# Altium schematic symbol library Symbol.SchLib: 349 symbols (part 2 of 3)
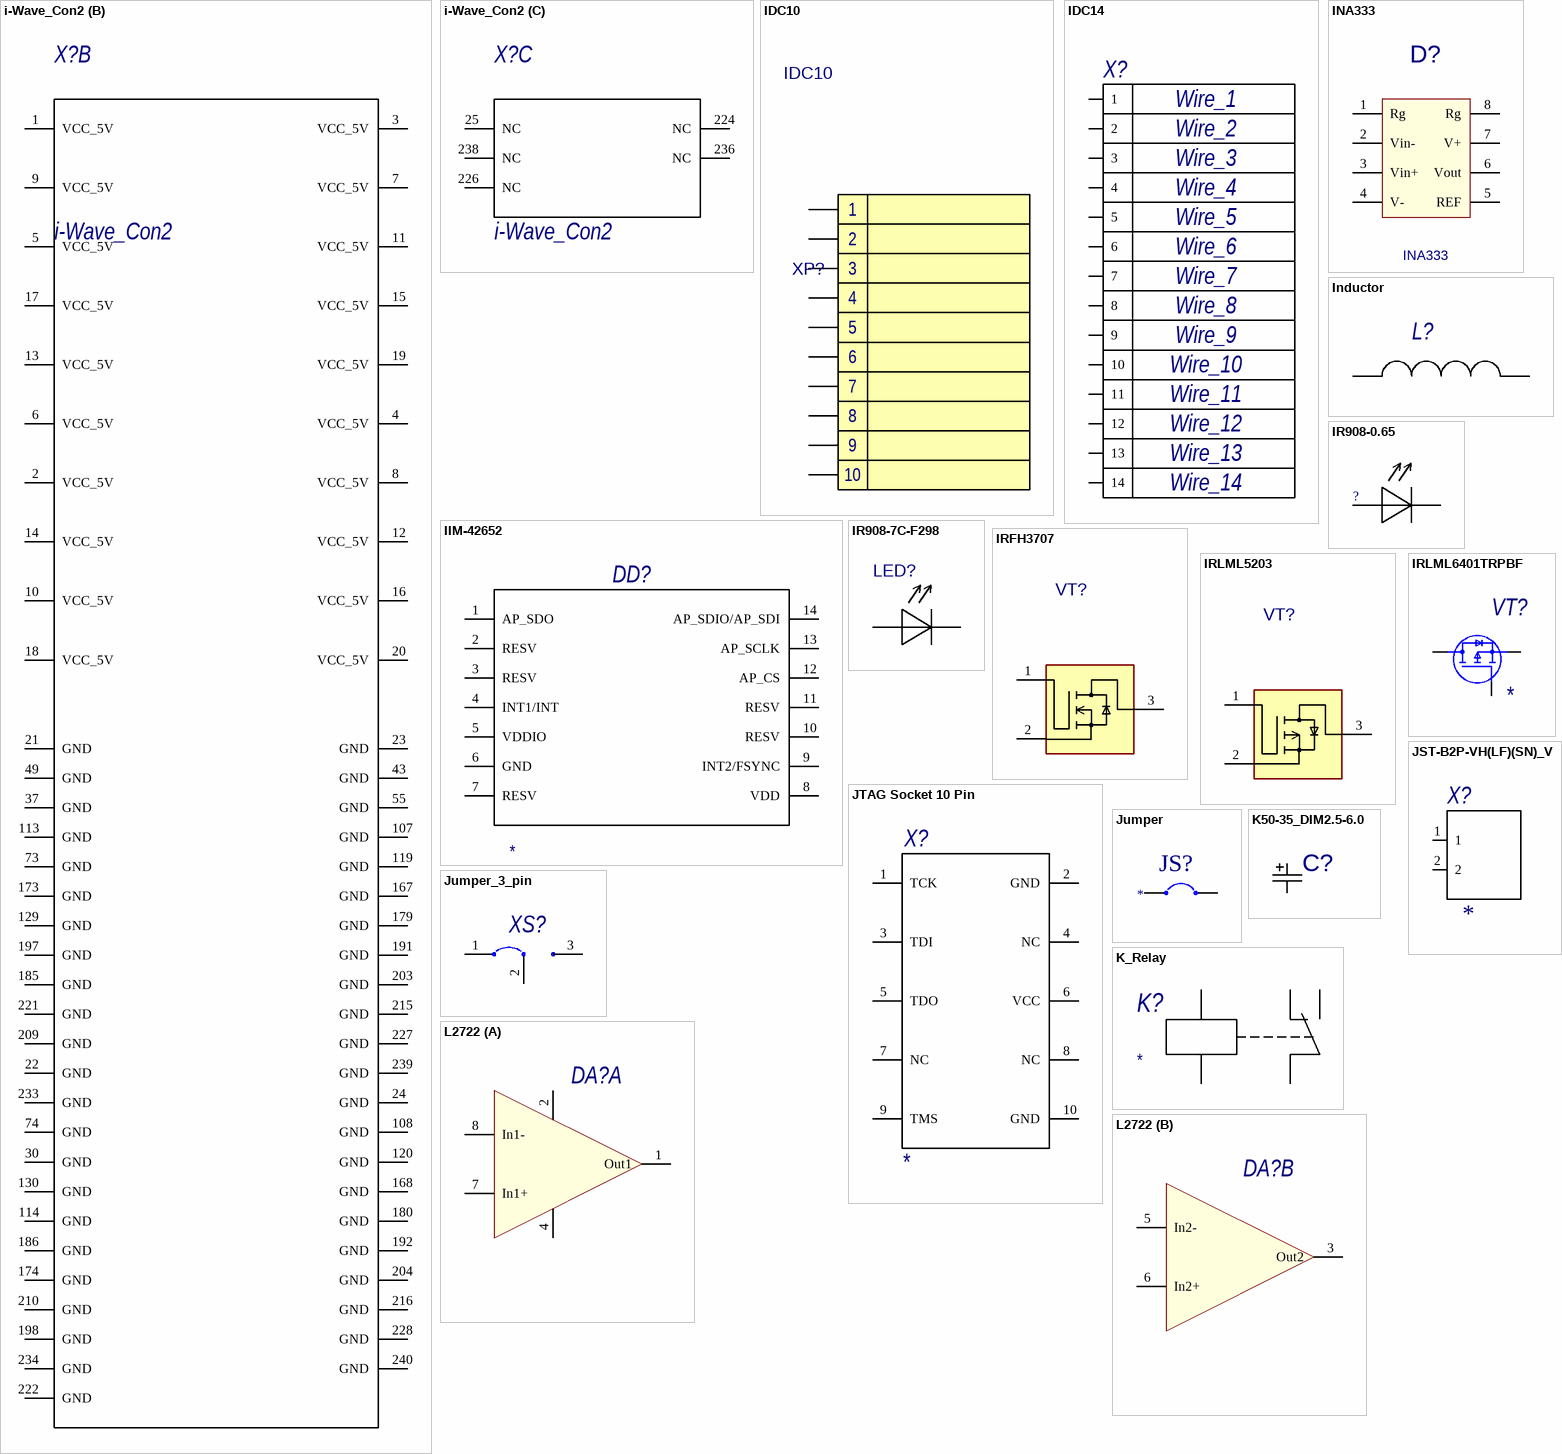
[diagram p34: symbols i-Wave_Con2 to L2722]

## i-Wave_Con2
designator X?
part A pins: 26 USB_OTG_DM, 27 PS_JTAG_TDI, 28 USB_OTG_DP, 29 PS_JTAG_TMS, 31 PS_JTAG_TCK, 32 USB_PWR_EN, 33 PS_JTAG_TDO, 34 USB_OTG_ID, 35 RESET_SW_IN, 36 VBUS_USB, 38 PS_I2C1_SDA(GPIO), 39 GPHY_DTXRXM, 40 PS_SD1_WP, 41 GPHY_DTXRXP, 42 PS_SD1_CD, 44 PS_SD1_PWR, 45 GPHY_CTXRXM, 46 PS_I2C0_SDA, 47 GPHY_CTXRXP, 48 PS_I2C0_SCL, 50 PS_UART1_TX, 51 GPHY_BTXRXM, 52 PS_UART1_RX, 53 GPHY_BTXRXP, 54 PS_UART0_TX, 56 PS_UART0_RX, 57 GPHY_ATXRXM, 58 GPHY_LINK_LED2, 59 GPHY_ATXRXP, 60 GPHY_ACTIVITY_LED1, 61 PS_SPI0_SCLK, 62 PS_SD1_DATA3, 63 PS_SPI0_SS0, 64 PS_SD1_DATA2, 65 PS_SPI0_MOSI, 66 PS_SD1_DATA1, 67 PS_SPI0_MISO, 68 VRTC_3V0, 69 PS_SD1_DATA0, 70 PS_I2C1_SCL(GPIO), 71 PS_SD1_CMD, 72 PS_SD1_CLK, 75 PL_AE1_LVDS66_L20N, 76 PL_AA2_LVDS66_L24P, 77 PL_AD1_LVDS66_L20P, 78 PL_AA1_LVDS66_L24N, 79 PL_AA5_LVDS66_L18N, 80 PL_AC1_LVDS66_L23N, 81 PL_AA6_LVDS66_L18P, 82 PL_AB1_LVDS66_L23P, 83 PL_AB9_LVDS66_L5N, 84 PL_AB3_LVDS66_L22N_DBC, 85 PL_AB10_LVDS66_L5P, 86 PL_AA3_LVDS66_L22P_DBC, 87 PL_W8_LVDS66_L9P, 88 PL_AD2_LVDS66_L19P_DBC, 89 PL_Y8_LVDS66_L9N, 90 PL_AE2_LVDS66_L19N_DBC, 91 PL_Y10_LVDS66_L6P, 92 PL_Y7_LVDS66_L10P_QBC, 93 PL_AA10_LVDS66_L6N, 94 PL_AA7_LVDS66_L10N_QBC, 95 PL_AA12_LVDS66_L2P, 96 PL_AD6_LVDS66_L8N, 97 PL_AA11_LVDS66_L2N, 98 PL_AC6_LVDS66_L8P, 99 PL_AB11_LVDS66_L3P, 100 PL_AC9_LVDS66_L7P_QBC, 101 PL_AC11_LVDS66_L3N, 102 PL_AD9_LVDS66_L7N_QBC, 103 PL_AC12_LVDS66_L1P_DBC, 104 PL_AD11_LVDS66_L4P_DBC, 105 PL_AD12_LVDS66_L1N_DBC, 106 PL_AD10_LVDS66_L4N_DBC, 109 PL_AB6_LVDS66_L14P_GC, 110 PL_AA8_LVDS66_L12P_GC, 111 PL_AB5_LVDS66_L14N_GC, 112 PL_AB8_LVDS66_L12N_GC, 115 PL_AD7_LVDS66_L13P_GC, 116 PL_AC8_LVDS66_L11P_GC, 117 PL_AE7_LVDS66_L13N_GC, 118 PL_AC7_LVDS66_L11N_GC, 121 PL_AC4_LVDS66_L17N, 122 PL_AC16_LVDS64_L15P, 123 PL_AB4_LVDS66_L17P, 124 PL_AD16_LVDS64_L15N, 125 PL_AE4_LVDS66_L16N_QBC, 126 PL_AA14_LVDS64_L4P_DBC, 127 PL_AD4_LVDS66_L16P_QBC, 128 PL_AB14_LVDS64_L4N_DBC, 131 PL_AC17_LVDS64_L17P, 132 PL_AG18_LVDS64_L23P, 133 PL_AC18_LVDS64_L17N, 134 PL_AH18_LVDS64_L23N, 135 PL_AD19_LVDS64_L18P, 136 PL_AG16_LVDS64_L19P_DBC, 137 PL_AE19_LVDS64_L18N, 138 PL_AH16_LVDS64_L19N_DBC, 139 PL_AD5_LVDS66_L15P, 140 PL_AE14_LVDS64_L2P, 141 PL_AE5_LVDS66_L15N, 142 PL_AE13_LVDS64_L2N, 143 PL_AC2_LVDS66_L21N, 144 PL_AC14_LVDS64_L3P, 145 PL_AC3_LVDS66_L21P, 146 PL_AD14_LVDS64_L3N, 147 PL_AE18_LVDS64_L24P, 148 PL_AD15_LVDS64_L6P, 149 PL_AF18_LVDS64_L24N, 150 PL_AE15_LVDS64_L6N, 151 PL_AH17_LVDS64_L21P, 152 PL_AK13_LVDS64_L8P, 153 PL_AJ17_LVDS64_L21N, 154 PL_AK12_LVDS64_L8N, 155 PL_AJ16_LVDS64_L20P, 156 PL_AJ14_LVDS64_L9P, 157 PL_AK16_LVDS64_L20N, 158 PL_AK14_LVDS64_L9N, 159 PL_AK17_LVDS64_L22P_DBC, 160 PL_AB15_LVDS64_L5N, 161 PL_AK18_LVDS64_L22N_DBC, 162 PL_AA15_LVDS64_L5P, 163 PL_AA13_LVDS64_L1P_DBC, 164 PL_AJ15_LVDS64_L10P_QBC, 165 PL_AB13_LVDS64_L1N_DBC, 166 PL_AK15_LVDS64_L10N_QBC, 169 PL_AD17_LVDS64_L14P_GC, 170 PL_AF16_LVDS64_L13P_GC, 171 PL_AE17_LVDS64_L14N_GC, 172 PL_AF17_LVDS64_L13N_GC, 175 PL_AF15_LVDS64_L12P_GC, 176 PL_AG14_LVDS64_L11P_GC, 177 PL_AG15_LVDS64_L12N_GC, 178 PL_AH14_LVDS64_L11N_GC, 181 PL_AH13_LVDS64_L7N_QBC, 182 PL_AA16_LVDS64_L16P_QBC, 183 PL_AG13_LVDS64_L7P_QBC, 184 PL_AB16_LVDS64_L16N_QBC, 187 GTHRXP0_226, 188 GTREFCLK0P_226, 189 GTHRXN0_226, 190 GTREFCLK0N_226, 193 GTHTXP0_226, 194 GTHRXP3_226, 195 GTHTXN0_226, 196 GTHRXN3_226, 199 GTHRXP1_226, 200 GTHTXP3_226, 201 GTHRXN1_226, 202 GTHTXN3_226, 205 GTHTXP1_226, 206 PS_MGTRRXP3_505, 207 GTHTXN1_226, 208 PS_MGTRRXN3_505, 211 GTHRXP2_226, 212 PS_MGTRTXP3_505, 213 GTHRXN2_226, 214 PS_MGTRTXN3_505, 217 GTHTXP2_226, 218 PS_MGTREFCLK3P_505, 219 GTHTXN2_226, 220 PS_MGTREFCLK3N_505, 223 GTREFCLK1P_226, 225 GTREFCLK1N_226, 229 PS_MGTRRXP2_505, 230 PS_MGTREFCLK2P_505, 231 PS_MGTRRXN2_505, 232 PS_MGTREFCLK2N_505, 235 PS_MGTRTXP2_505, 237 PS_MGTRTXN2_505
part B pins: 1 VCC_5V, 2 VCC_5V, 3 VCC_5V, 4 VCC_5V, 5 VCC_5V, 6 VCC_5V, 7 VCC_5V, 8 VCC_5V, 9 VCC_5V, 10 VCC_5V, 11 VCC_5V, 12 VCC_5V, 13 VCC_5V, 14 VCC_5V, 15 VCC_5V, 16 VCC_5V, 17 VCC_5V, 18 VCC_5V, 19 VCC_5V, 20 VCC_5V, 21 GND, 22 GND, 23 GND, 24 GND, 30 GND, 37 GND, 43 GND, 49 GND, 55 GND, 73 GND, 74 GND, 107 GND, 108 GND, 113 GND, 114 GND, 119 GND, 120 GND, 129 GND, 130 GND, 167 GND, 168 GND, 173 GND, 174 GND, 179 GND, 180 GND, 185 GND, 186 GND, 191 GND, 192 GND, 197 GND, 198 GND, 203 GND, 204 GND, 209 GND, 210 GND, 215 GND, 216 GND, 221 GND, 222 GND, 227 GND, 228 GND, 233 GND, 234 GND, 239 GND, 240 GND
part C pins: 25 NC, 224 NC, 226 NC, 236 NC, 238 NC

## IDC10
designator XP?
MntType: SMD; BOMDescription: SMD CONNECTOR      IDC10; MPN: IDC10; MSL: MSL 1; RoHS: Comply; PartType: CONNECTOR; Pins: 10
footprint BH-10
pins: 1, 2, 3, 4, 5, 6, 7, 8, 9, 10

## IDC14
designator X?  WIre9: Wire_9  WIre8: Wire_8  WIre7: Wire_7  WIre6: Wire_6  WIre5: Wire_5  WIre4: Wire_4  WIre3: Wire_3  WIre2: Wire_2  WIre14: Wire_14  WIre13: Wire_13  WIre12: Wire_12  WIre11: Wire_11  WIre10: Wire_10  WIre1: Wire_1  (hidden comment: IDC14)
MntType: SMD; BOMDescription: SMD CONNECTOR      IDC14; MPN: IDC14; MSL: MSL 1; RoHS: Comply; PartType: CONNECTOR; Pins: 14
footprint BH14
pins: 1, 2, 3, 4, 5, 6, 7, 8, 9, 10, 11, 12, 13, 14

## IIM-42652
designator DD?
6-axis IMU with accelerometer, gyro, thermometer; MPN: *
pins: 1 AP_SDO, 2 RESV, 3 RESV, 4 INT1/INT, 5 VDDIO, 6 GND, 7 RESV, 8 VDD, 9 INT2/FSYNC, 10 RESV, 11 RESV, 12 AP_CS, 13 AP_SCLK, 14 AP_SDIO/AP_SDI

## INA333
designator D?
MntType: SMD; BOMDescription: SMD INSTRUMENTAL OPAMP MSOP8     INA333; MPN: INA333; MSL: MSL 1; Package: MSOP8; RoHS: Comply; PartType: INSTRUMENTAL OPAMP; Pins: 8
footprint MSOP-8
pins: 1 Rg, 2 Vin-, 3 Vin+, 4 V-, 5 REF, 6 Vout, 7 V+, 8 Rg

## Inductor
designator L?
MPN: B82464; MntType: SMD; MSL: MSL 1; RoHS: Comply; PartType: INDUCTOR; Pins: 2; BOMDescription: =MntType+' '+PartType+' '+Package+' '+Value+' '+Tolerance+' '+Voltage+' '+TempCoeff+' '+MPN
pins: 1, 2

## IR908-0.65
designator ?  (value not drawn)
MntType: SMD; MSL: MSL 1; RoHS: Comply; BOMDescription: SMD
footprint IR908-0.65
pins: 1 hidden, 1, 2 hidden, 2

## IR908-7C-F298
designator LED?
MntType: SMD; MSL: MSL 1; RoHS: Comply; BOMDescription: SMD
footprint IR908-0.65
pins: 1, 2

## IRFH3707
designator VT?  (value not drawn)
MntType: SMD; BOMDescription: SMD N-MOSFET PQFN 3x3     IRFH3707; MPN: IRFH3707; MSL: MSL 1; Package: PQFN 3x3; RoHS: Comply; PartType: N-MOSFET; Pins: 3
pins: 1, 2, 3

## IRLML5203
designator VT?  (value not drawn)
MntType: SMD; BOMDescription: SMD N-MOSFET SOT-23     IRLML5203; MPN: IRLML5203; MSL: MSL 1; Package: SOT-23; RoHS: Comply; PartType: N-MOSFET; Pins: 3
footprint SOT-23
pins: 1, 2, 3

## IRLML6401TRPBF
designator VT?
MPN: *
pins: 1 G, 2 S, 3 D

## JST-B2P-VH(LF)(SN)_V
designator X?
pins: 1, 2

## JTAG Socket 10 Pin
designator X?
ComponentLink1Description: Datasheet; MPN: *
pins: 1 TCK "Test Clock", 2 GND "Ground", 3 TDI "Test Data Input", 4 NC "Not Connected", 5 TDO "Test Data Output", 6 VCC "Power", 7 NC "Not Connected", 8 NC "Not Connected", 9 TMS "Test Mode Select", 10 GND "Ground"

## Jumper
designator JS?  (no BOM)
State: *
footprint PCB_JUMPER_OFF (soldable jumper OFF state)
footprint PCB_JUMPER_ON (soldable jumper ON state)
pins: 1, 2

## Jumper_3_pin
designator XS?  (value not drawn)  (no BOM)
State: *
footprint PCB_JUMPER_OFF (soldable jumper OFF state)
footprint PCB_JUMPER_ON (soldable jumper ON state)
pins: 1, 2, 3

## K50-35_DIM2.5-6.0
designator C?
MntType: DIP; BOMDescription: DIP ALUMINIUM CAPACITOR K50-35_DIM2.5-6.0; MSL: MSL 1; Package: K50-35_DIM2.5-6.0; RoHS: Comply; PartType: ALUMINIUM CAPACITOR; Pins: 2
footprint CE25-60
pins: 1, 2

## K_Relay
designator K?
MPN: *
pins: 1, 2, 3, 4, 5

## L2722
designator DA?
part A pins: 1 Out1, 2 V+ (power), 4 GND (power), 7 In1+, 8 In1-
part B pins: 3 Out2, 5 In2-, 6 In2+

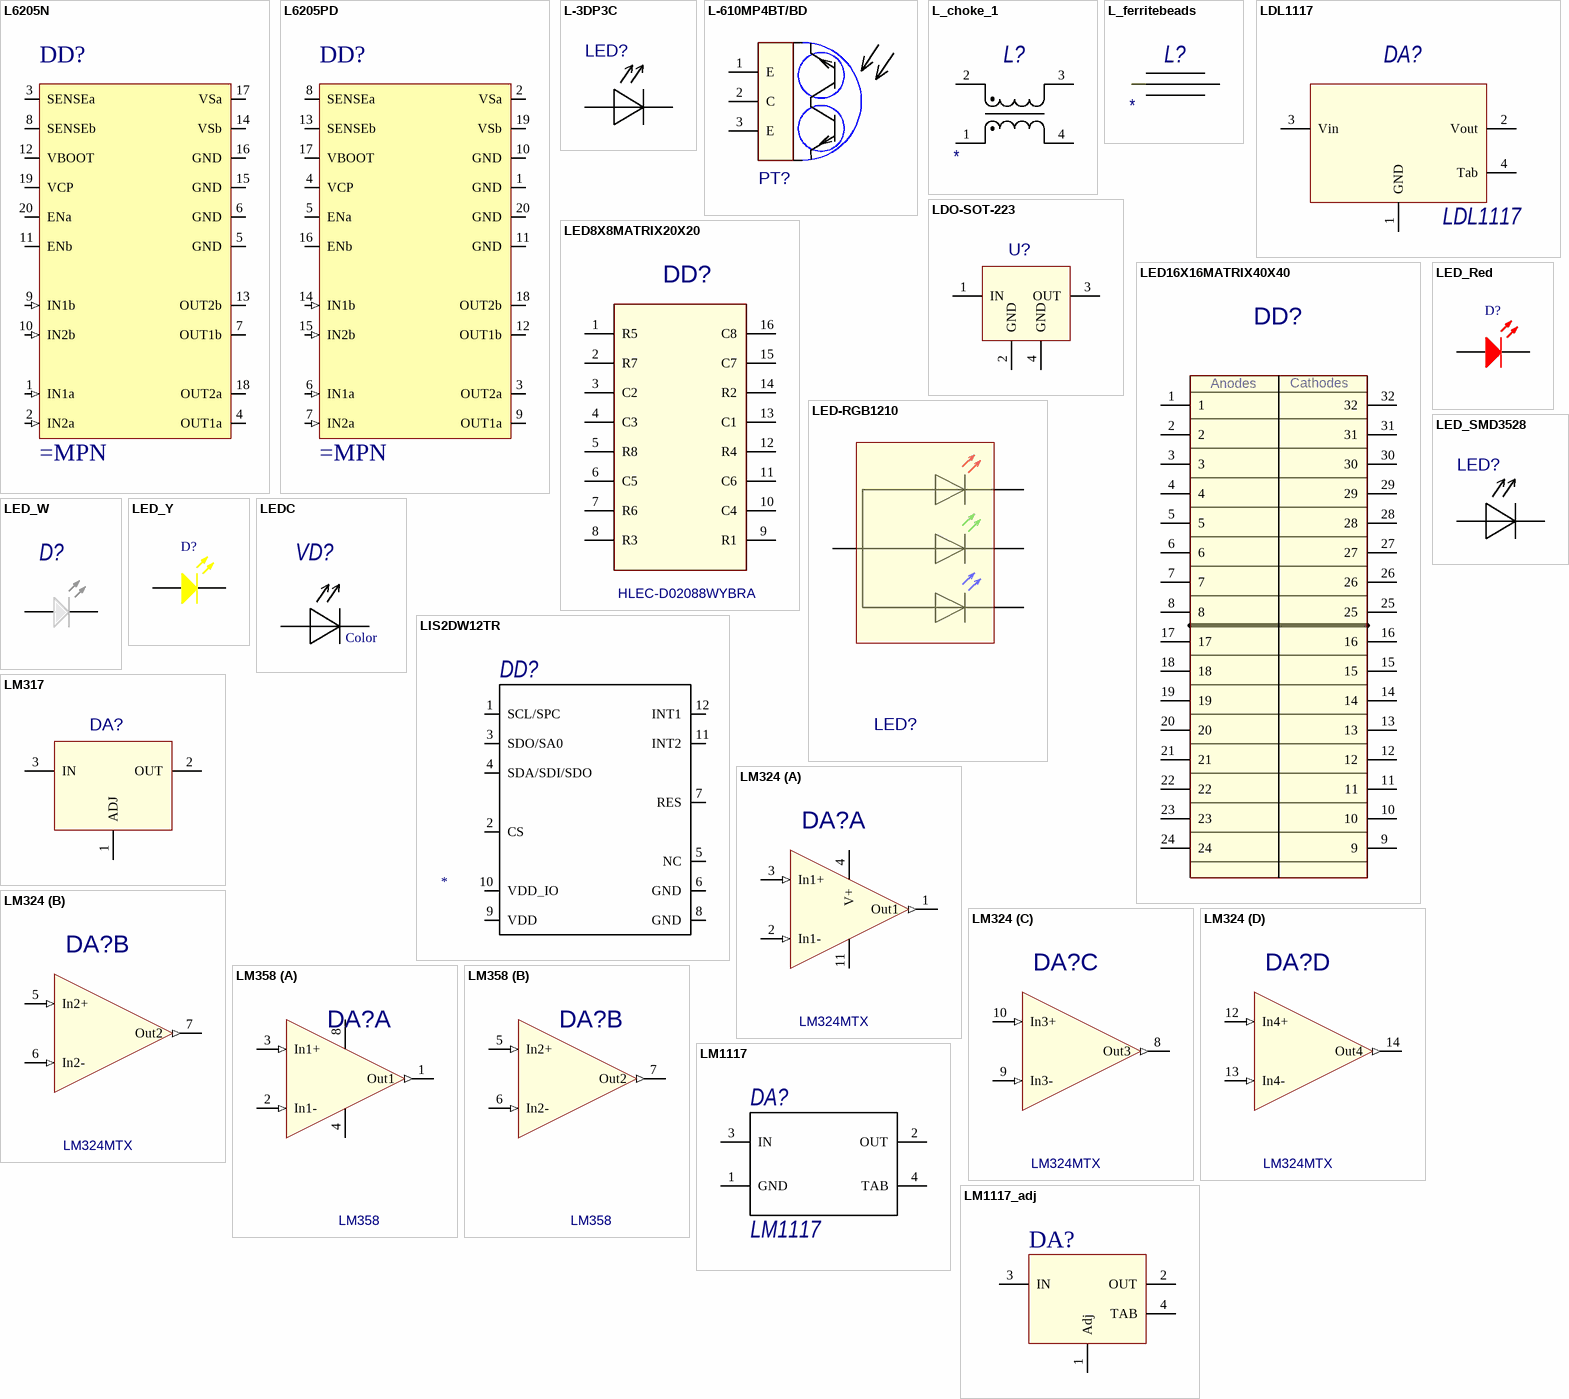
[diagram p18: symbols L6205N to LM1117_adj]

## L6205N
designator DD?
pins: 1 IN1a (in), 2 IN2a (in), 3 SENSEa, 4 OUT1a (power), 5 GND (power), 6 GND (power), 7 OUT1b (power), 8 SENSEb, 9 IN1b (in), 10 IN2b (in), 11 ENb, 12 VBOOT, 13 OUT2b (power), 14 VSb (power), 15 GND (power), 16 GND (power), 17 VSa (power), 18 OUT2a (power), 19 VCP, 20 ENa

## L6205PD
designator DD?
pins: 1 GND (power), 2 VSa (power), 3 OUT2a (power), 4 VCP, 5 ENa, 6 IN1a (in), 7 IN2a (in), 8 SENSEa, 9 OUT1a (power), 10 GND (power), 11 GND (power), 12 OUT1b (power), 13 SENSEb, 14 IN1b (in), 15 IN2b (in), 16 ENb, 17 VBOOT, 18 OUT2b (power), 19 VSb (power), 20 GND (power)

## L-3DP3C
designator LED?  (value not drawn)
MntType: DIP; BOMDescription: DIP PHOTOTRANSISTOR LEDD_L-3DP3C     L-3DP3C; MPN: L-3DP3C; MSL: MSL 1; Package: LEDD_L-3DP3C; RoHS: Comply; PartType: PHOTOTRANSISTOR; Pins: 2
footprint IR908
pins: 1, 2

## L-610MP4BT/BD
designator PT?  (value not drawn)
MntType: DIP; BOMDescription: DIP PHOTOTRANSISTOR LEDD_L-610MP4BT/BD     L-610MP4BT/BD; MPN: L-610MP4BT/BD; MSL: MSL 1; Package: LEDD_L-610MP4BT/BD; RoHS: Comply; PartType: PHOTOTRANSISTOR; Pins: 3
footprint PHOTOTRANS254
pins: 1 E, 2 C, 3 E

## L_choke_1
designator L?
MPN: *
pins: 1, 2, 3, 4

## L_ferritebeads
designator L?
MPN: *
pins: 1, 2

## LDL1117
designator DA?
pins: 1 GND, 2 Vout, 3 Vin, 4 Tab

## LDO-SOT-223
designator U?
MntType: SMD; BOMDescription: SMD LDO SOT-223; MSL: MSL 1; Package: SOT-223; RoHS: Comply; PartType: LDO; Pins: 3
footprint SOT-223
pins: 1 IN, 2 GND, 3 OUT, 4 GND

## LED8X8MATRIX20X20
designator DD?, comment HLEC-D02088WYBRA
Manufacturer: HLEC.com.cn; MntType: DIP; BOMDescription: DIP LED MATRIX LED8X8MATRIX20X20     HLEC-D02088WYBRA; MPN: HLEC-D02088WYBRA; MSL: MSL 5; Package: LED8X8MATRIX20X20; RoHS: Comply; PartType: LED MATRIX
footprint LED8X8MATRIX20X20
pins: 1 R5, 2 R7, 3 C2, 4 C3, 5 R8, 6 C5, 7 R6, 8 R3, 9 R1, 10 C4, 11 C6, 12 R4, 13 C1, 14 R2, 15 C7, 16 C8

## LED16X16MATRIX40X40
designator DD?
MntType: DIP; BOMDescription: DIP LED MATRIX LED16X16MATRIX40X40; MSL: MSL 5; Package: LED16X16MATRIX40X40; RoHS: Comply; PartType: LED MATRIX
footprint LED16X16MATRIX40X40
pins: 1, 2, 3, 4, 5, 6, 7, 8, 9, 10, 11, 12, 13, 14, 15, 16, 17, 18, 19, 20, 21, 22, 23, 24, 25, 26, 27, 28, 29, 30, 31, 32
text: Anodes; Cathodes

## LED-RGB1210
designator LED?
MntType: SMD; BOMDescription: SMD CHIP LED LEDC1210; MSL: MSL 5; Package: LEDC1210; RoHS: Comply; PartType: CHIP LED; Pins: 6
footprint LED_1210RGB
pins: 1 A, 2 R, 3 G, 4 B

## LED_Red
designator D?
Typical GaAs LED
pins: 1 A, 2 K

## LED_SMD3528
designator LED?
MntType: SMD; BOMDescription: SMD CHIP LED LEDC3528; MSL: MSL 5; Package: LEDC3528; RoHS: Comply; PartType: CHIP LED; Pins: 2
footprint LED_SMD3528
pins: 1, 2

## LED_W
designator D?
Typical GaAs LED
pins: 1 A, 2 K

## LED_Y
designator D?
Typical GaAs LED
pins: 1 A, 2 K

## LEDC
designator VD?, comment Color
MntType: SMD; MSL: MSL 5; RoHS: Comply; PartType: CHIP LED; Pins: 2; BOMDescription: =MntType+' '+PartType+' '+Package+' '+Value+' '+Tolerance+' '+Voltage+' '+TempCoeff+' '+MPN; Value: Color
footprint LED603
footprint LED0805
pins: 1 A, 2 K

## LIS2DW12TR
designator DD?
pins: 1 SCL/SPC, 2 CS "SPI enable I2C/SPI mode selection (1: SPI idle mode / I2C communication enabled; 0: SPI communication mode / I2C disabled)", 3 SDO/SA0, 4 SDA/SDI/SDO, 5 NC "Connect to GND", 6 GND (power) "0 V supply", 7 RES (power) "0 V supply", 8 GND (power) "0 V supply", 9 VDD (power) "Power supply", 10 VDD_IO (power) "Power supply for I/O pins", 11 INT2 "Interrupt pin 2", 12 INT1 "Interrupt pin 1"

## LM317
designator DA?  (value not drawn)
MntType: SMD; BOMDescription: SMD LDO      LM317; MPN: LM317; MSL: MSL 1; RoHS: Comply; PartType: LDO
footprint PLS3
pins: 1 ADJ, 2 OUT, 3 IN

## LM324
designator DA?, comment LM324MTX
MntType: SMD; BOMDescription: SMD INSTRUMENTAL OPAMP TSSOP14     LM324MTX; MPN: LM324MTX; MSL: MSL 1; Package: TSSOP14; RoHS: Comply; PartType: INSTRUMENTAL OPAMP; Pins: 8
footprint TSOP65P640X120-14L (TSOP, 14-Leads, Body 5.00x4.40mm, Pitch 0.65mm, IPC High Density)
footprint SOIC-14 (SOIC, 14-Leads, Body 8.65x3.90mm, Pitch 1.27mm, IPC High Density)
part A pins: 1 Out1 (out), 2 In1- (in), 3 In1+ (in), 4 V+ (power), 11 GND (power)
part B pins: 5 In2+ (in), 6 In2- (in), 7 Out2 (out)
part C pins: 8 Out3 (out), 9 In3- (in), 10 In3+ (in)
part D pins: 12 In4+ (in), 13 In4- (in), 14 Out4 (out)

## LM358
designator DA?
MntType: SMD; BOMDescription: SMD INSTRUMENTAL OPAMP TSSOP14     LM358; MPN: LM358; MSL: MSL 1; Package: TSSOP14; RoHS: Comply; PartType: INSTRUMENTAL OPAMP; Pins: 8
footprint TSOP65P640X120-8L (TSOP, 8-Leads, Body 3.00x4.40mm, Pitch 0.65mm, IPC High Density)
part A pins: 1 Out1 (out), 2 In1- (in), 3 In1+ (in), 4 GND (power), 8 V+ (power)
part B pins: 5 In2+ (in), 6 In2- (in), 7 Out2 (out)

## LM1117
designator DA?
MntType: SMD; BOMDescription: =MntType+' '+PartType+' '+Package+' '+Value+' '+Tolerance+' '+Voltage+' '+TempCoeff+' '+MPN; MPN: LM1117; MSL: MSL 1; PartType: LDO; Pins: 4; RoHS: Comply
pins: 1 GND, 2 OUT, 3 IN, 4 TAB

## LM1117_adj
designator DA?
MPN: LM1117; MntType: SMD; BOMDescription: =MntType+' '+PartType+' '+Package+' '+Value+' '+Tolerance+' '+Voltage+' '+TempCoeff+' '+MPN; MSL: MSL 1; PartType: LDO; Pins: 4; RoHS: Comply
pins: 1 Adj, 2 OUT, 3 IN, 4 TAB

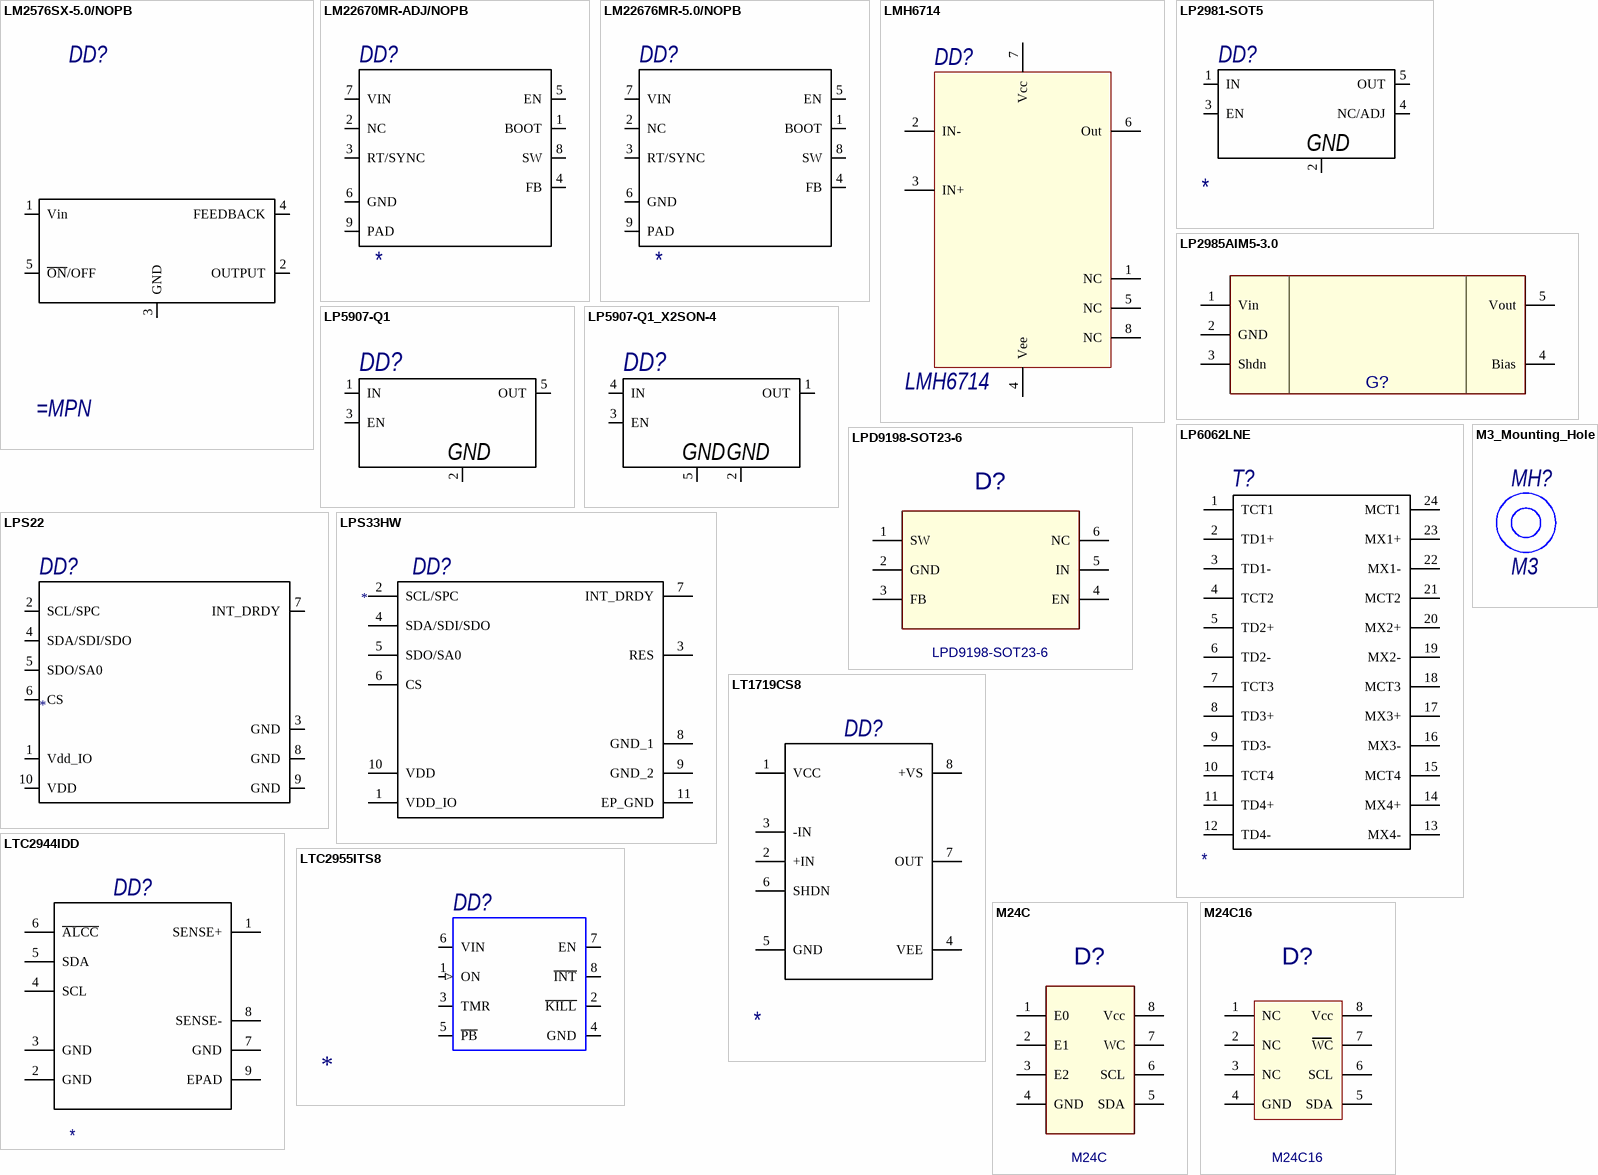
[diagram p19: symbols LM2576SX-5.0/NOPB to M24C16]

## LM2576SX-5.0/NOPB
designator DD?
pins: 1 Vin, 2 OUTPUT, 3 GND, 4 FEEDBACK, 5 ~{ON}/OFF

## LM22670MR-ADJ/NOPB
designator DD?
pins: 1 BOOT, 2 NC, 3 RT/SYNC, 4 FB, 5 EN, 6 GND, 7 VIN, 8 SW, 9 PAD

## LM22676MR-5.0/NOPB
designator DD?
pins: 1 BOOT, 2 NC, 3 RT/SYNC, 4 FB, 5 EN, 6 GND, 7 VIN, 8 SW, 9 PAD

## LMH6714
designator DD?
pins: 1 NC, 2 IN-, 3 IN+, 4 Vee, 5 NC, 6 Out, 7 Vcc, 8 NC

## LP2981-SOT5
designator DD?
MPN: *
pins: 1 IN (power), 2 GND (power), 3 EN, 4 NC/ADJ, 5 OUT (power)

## LP2985AIM5-3.0
designator G?
Manufacturer: TI; MPN: LP2985AIM5-3.0; MntType: SMD; BOMDescription: SMD LOW DROP LDO SOT23-5     LP2985AIM5-3.0; MSL: MSL 1; Package: SOT23-5; RoHS: Comply; PartType: LOW DROP LDO; Pins: 5
footprint SOT-23-5
pins: 1 Vin, 2 GND, 3 Shdn, 4 Bias, 5 Vout

## LP5907-Q1
designator DD?  (value not drawn)
pins: 1 IN (power), 2 GND (power), 3 EN, 5 OUT (power)

## LP5907-Q1_X2SON-4
designator DD?  (value not drawn)
pins: 1 OUT (power), 2 GND (power), 3 EN, 4 IN (power), 5 GND (power)

## LP6062LNE
designator T?
Ethernet transformer; MPN: *
pins: 1 TCT1, 2 TD1+, 3 TD1-, 4 TCT2, 5 TD2+, 6 TD2-, 7 TCT3, 8 TD3+, 9 TD3-, 10 TCT4, 11 TD4+, 12 TD4-, 13 MX4-, 14 MX4+, 15 MCT4, 16 MX3-, 17 MX3+, 18 MCT3, 19 MX2-, 20 MX2+, 21 MCT2, 22 MX1-, 23 MX1+, 24 MCT1

## LPD9198-SOT23-6
designator D?
MntType: SMD; MSL: MSL 1; RoHS: Comply; BOMDescription: SMD
footprint LPD9198-SOT23-6
pins: 1 SW, 2 GND, 3 FB, 4 EN, 5 IN, 6 NC

## LPS22
designator DD?
pins: 1 Vdd_IO, 2 SCL/SPC, 3 GND, 4 SDA/SDI/SDO, 5 SDO/SA0, 6 CS, 7 INT_DRDY, 8 GND, 9 GND, 10 VDD

## LPS33HW
designator DD?
pins: 1 VDD_IO, 2 SCL/SPC, 3 RES, 4 SDA/SDI/SDO, 5 SDO/SA0, 6 CS, 7 INT_DRDY, 8 GND_1, 9 GND_2, 10 VDD, 11 EP_GND

## LT1719CS8
designator DD?  (value not drawn)
Comparator; ComponentLink1Description: Manufacturer URL; ComponentLink2URL: http://cds.linear.com/docs/en/datasheet/1719fa.pdf; ComponentLink3Description: Package Specification; ComponentLink2Description: Datasheet; ComponentLink1URL: http://www.linear.com/; ComponentLink3URL: http://cds.linear.com/docs/en/packaging/05081610_G_SO8.pdf; MPN: *
pins: 1 VCC (power) "Positive Supply Voltage for Input Stage.", 2 +IN "Noninverting Input of Comparator.", 3 -IN "Inverting Input of Comparator.", 4 VEE (power) "Negative Supply Voltage for Input Stage and Chip Substrate.", 5 GND (power) "Ground.", 6 SHDN "Shutdown. Pull to ground to enable comparator.", 7 OUT "Output of Comparator.", 8 +VS (power) "Positive Supply Voltage for Output Stage."

## LTC2944IDD
designator DD?
60V Battery Gauge; MPN: *
pins: 1 SENSE+, 2 GND, 3 GND, 4 SCL, 5 SDA, 6 ~{ALCC}, 7 GND, 8 SENSE-, 9 EPAD

## LTC2955ITS8
designator DD?
pins: 1 ON (in) "Monitor Input. Connect this pin to an external resistive divider from the monitored voltage. This allows automatic system turn-on when the monitored voltage transitions high. For the DFN part, if the SEL pin is tied high, it (See Datasheet)", 2 ~{KILL} "Kill Input. A low at K\I\L\L\ releases the enable output (EN/E\N\). This pin can be driven by the microprocessor or it can be used as a voltage monitor input. Tie to the system power supply or an external voltage of 1.2V~5V (See Datasheet)", 3 TMR "Timer Pin. A capacitor to ground determines the additional time (5.2 seconds/uF) beyond the default 64ms that the pushbutton must be held low before immediately releasing the EN/E\N\ and I\N\T\ outputs. The turn-off debounce (See Datasheet)", 4 GND (power) "Device Ground.", 5 ~{PB} "Pushbutton Input. This is an active low input with a 900k pull-up to an internal LDO. Connect one terminal of the pushbutton to this pin and connect the other terminal of the pushbutton to GND. The pin may be left open if (See Datasheet)", 6 VIN (power) "Power Supply Input. For > 20V applications, connect VIN to the power source through a 1k resistor and bypass VIN to GND with a 10nF low ESR capacitor.", 7 EN (oc) "Enable Output (LTC2955-1). EN is an active high output to control the turn-on/off of the system power. Connect this pin to the RUN or S\H\U\T\D\O\W\N\ pin of the voltage regulator. The LTC2955 asserts EN high when the (See Datasheet)", 8 ~{INT} (oc) "Open Drain Interrupt Output. Connect this pin to the interrupt input of the system with a pull-up resistor to the system supply. The LTC2955 asserts the I\N\T\ pin low when it receives the turn-off command from the (See Datasheet)"

## M3_Mounting_Hole
designator MH?, comment M3

## M24C
designator D?
MntType: SMD; BOMDescription: SMD EEPROM SO-8     M24C; MPN: M24C; MSL: MSL 1; Package: SO-8; RoHS: Comply; PartType: EEPROM; Pins: 8
footprint SO-8
pins: 1 E0, 2 E1, 3 E2, 4 GND, 5 SDA, 6 SCL, 7 WC, 8 Vcc

## M24C16
designator D?
MntType: SMD; BOMDescription: SMD INSTRUMENTAL OPAMP TSSOP8     M24C16; MPN: M24C16; MSL: MSL 1; Package: TSSOP8; RoHS: Comply; PartType: INSTRUMENTAL OPAMP; Pins: 8
footprint SO-8
footprint TSOP8 (IPC) (TSOP, 8-Leads, Body 3.00x4.40mm, Pitch 0.65mm, IPC High Density)
pins: 1 NC, 2 NC, 3 NC, 4 GND, 5 SDA, 6 SCL, 7 WC, 8 Vcc

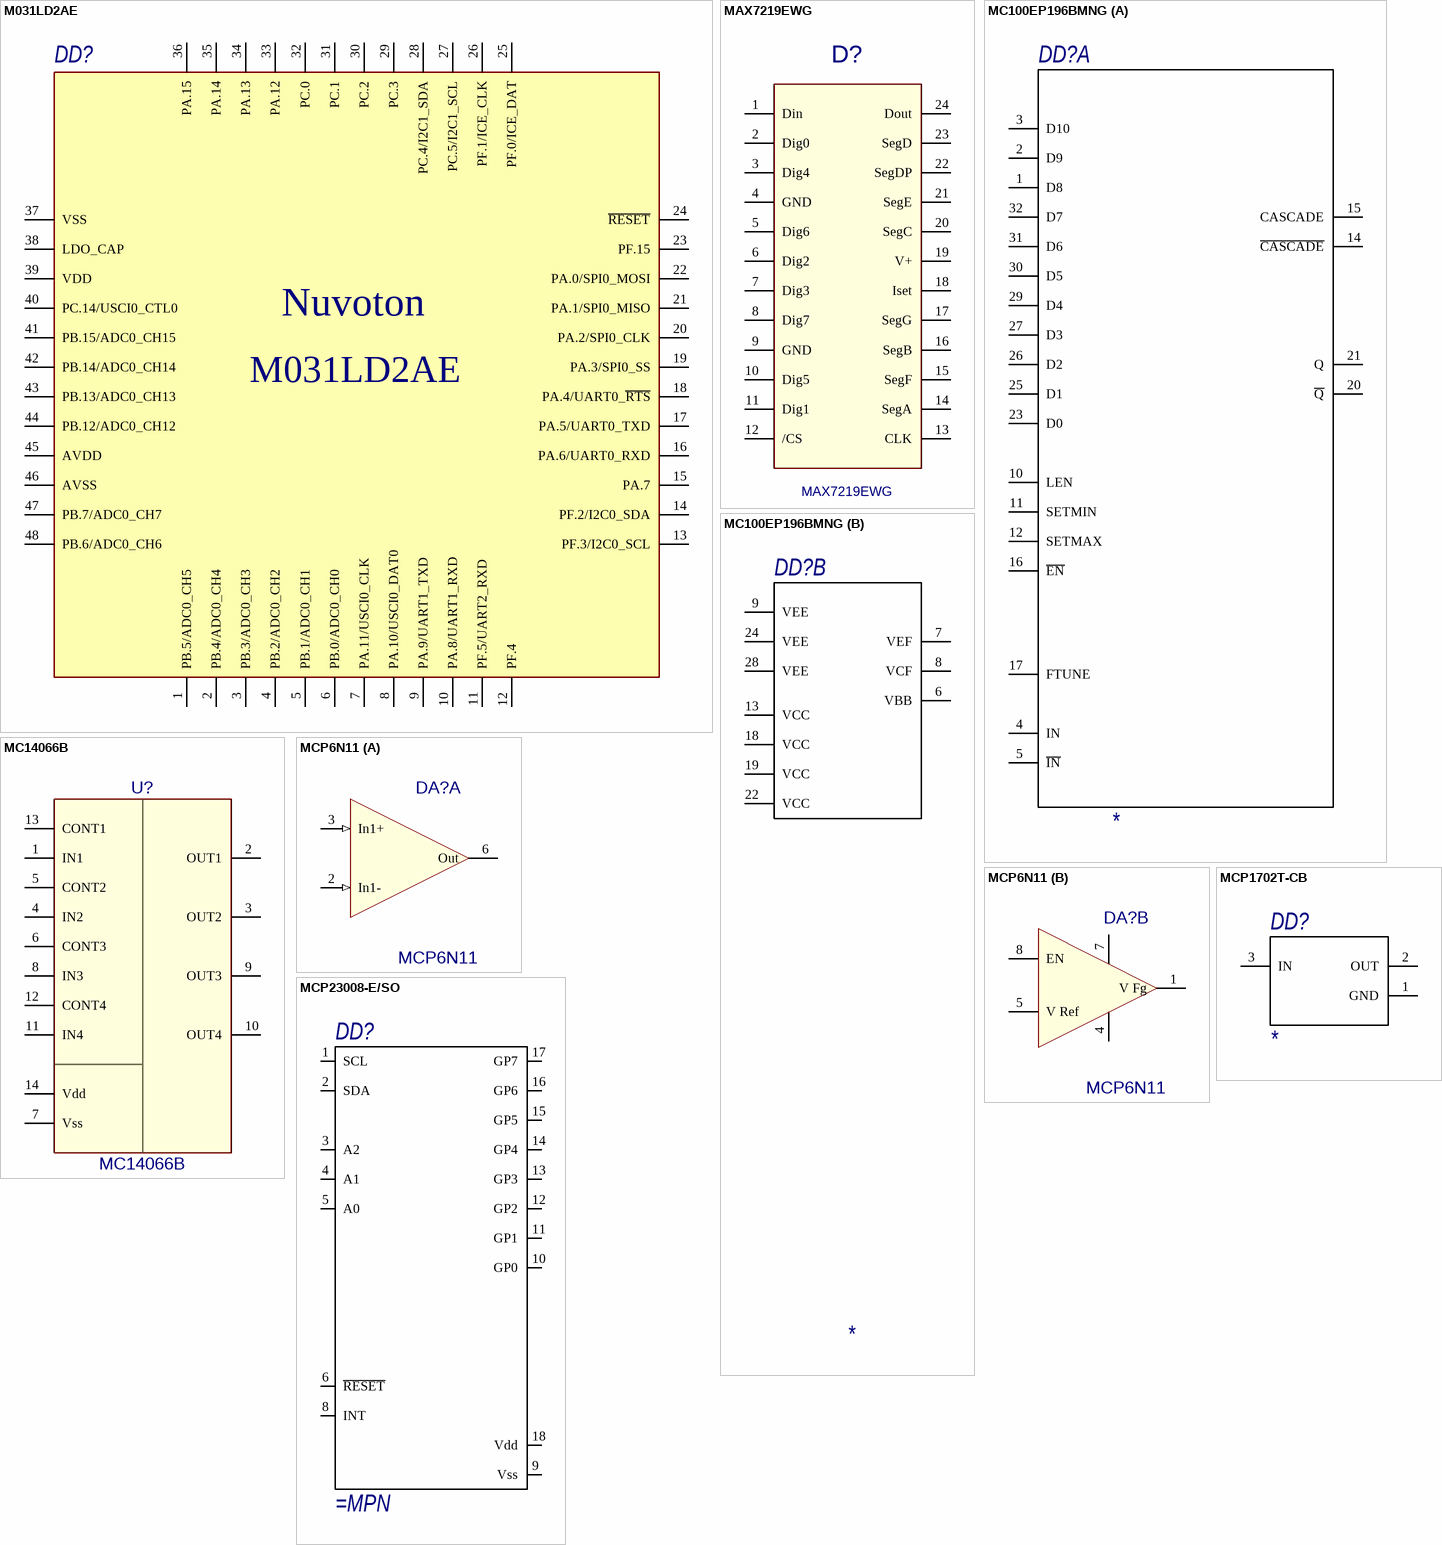
[diagram p20: symbols M031LD2AE to MCP23008-E/SO]

## M031LD2AE
designator DD?
pins: 1 PB.5/ADC0_CH5, 2 PB.4/ADC0_CH4, 3 PB.3/ADC0_CH3, 4 PB.2/ADC0_CH2, 5 PB.1/ADC0_CH1, 6 PB.0/ADC0_CH0, 7 PA.11/USCI0_CLK, 8 PA.10/USCI0_DAT0, 9 PA.9/UART1_TXD, 10 PA.8/UART1_RXD, 11 PF.5/UART2_RXD, 12 PF.4, 13 PF.3/I2C0_SCL, 14 PF.2/I2C0_SDA, 15 PA.7, 16 PA.6/UART0_RXD, 17 PA.5/UART0_TXD, 18 PA.4/UART0_~{RTS}, 19 PA.3/SPI0_SS, 20 PA.2/SPI0_CLK, 21 PA.1/SPI0_MISO, 22 PA.0/SPI0_MOSI, 23 PF.15, 24 ~{RESET}, 25 PF.0/ICE_DAT, 26 PF.1/ICE_CLK, 27 PC.5/I2C1_SCL, 28 PC.4/I2C1_SDA, 29 PC.3, 30 PC.2, 31 PC.1, 32 PC.0, 33 PA.12, 34 PA.13, 35 PA.14, 36 PA.15, 37 VSS (power), 38 LDO_CAP (power), 39 VDD (power), 40 PC.14/USCI0_CTL0, 41 PB.15/ADC0_CH15, 42 PB.14/ADC0_CH14, 43 PB.13/ADC0_CH13, 44 PB.12/ADC0_CH12, 45 AVDD (power), 46 AVSS (power), 47 PB.7/ADC0_CH7, 48 PB.6/ADC0_CH6
text: Nuvoton

## MAX7219EWG
designator D?
Manufacturer: Maxim; MntType: SMD; BOMDescription: SMD LED DRIVER SOIC-24     MAX7219EWG; MPN: MAX7219EWG; MSL: MSL 1; Package: SOIC-24; RoHS: Comply; PartType: LED DRIVER
footprint SOIC-24(IPC) (SOIC, 24-Leads, Body 15.40x7.50mm, Pitch 1.27mm, IPC High Density)
footprint SOIC-24(IPC L) (SOIC, 24-Leads, Body 15.40x7.50mm, Pitch 1.27mm, IPC High Density)
pins: 1 Din, 2 Dig0, 3 Dig4, 4 GND, 5 Dig6, 6 Dig2, 7 Dig3, 8 Dig7, 9 GND, 10 Dig5, 11 Dig1, 12 /CS, 13 CLK, 14 SegA, 15 SegF, 16 SegB, 17 SegG, 18 Iset, 19 V+ (power), 20 SegC, 21 SegE, 22 SegDP, 23 SegD, 24 Dout

## MC100EP196BMNG
designator DD?
MPN: *
part A pins: 1 D8, 2 D9, 3 D10, 4 IN, 5 ~{IN}, 10 LEN, 11 SETMIN, 12 SETMAX, 14 ~{CASCADE}, 15 CASCADE, 16 ~{EN}, 17 FTUNE, 20 ~{Q}, 21 Q, 23 D0, 25 D1, 26 D2, 27 D3, 29 D4, 30 D5, 31 D6, 32 D7
part B pins: 6 VBB, 7 VEF, 8 VCF, 9 VEE, 13 VCC, 18 VCC, 19 VCC, 22 VCC, 24 VEE, 28 VEE

## MC14066B
designator U?
Manufacturer: ON; MntType: SMD; BOMDescription: SMD QUAD SWITCH/MULTIPLEXER SO14     MC14066B; MPN: MC14066B; MSL: MSL 1; Package: SO14; RoHS: Comply; PartType: QUAD SWITCH/MULTIPLEXER; Pins: 14
footprint SO14
pins: 1 IN1, 2 OUT1, 3 OUT2, 4 IN2, 5 CONT2, 6 CONT3, 7 Vss (power), 8 IN3, 9 OUT3, 10 OUT4, 11 IN4, 12 CONT4, 13 CONT1, 14 Vdd (power)

## MCP6N11
designator DA?
Manufacturer: MICROCHIP; MntType: SMD; BOMDescription: SMD OPERATIONAL AMPLIFIER SOIC-8     MCP6N11; MPN: MCP6N11; MSL: MSL 1; Package: SOIC-8; RoHS: Comply; PartType: OPERATIONAL AMPLIFIER; Pins: 8
footprint SOIC127P600X175-8L (SOIC, 8-Leads, Body 4.90x3.90mm, Pitch 1.27mm, IPC High Density)
footprint SO-8
part A pins: 2 In1- (in), 3 In1+ (in), 6 Out
part B pins: 1 V Fg, 4 GND (power), 5 V Ref, 7 Vdd, 8 EN (power)

## MCP1702T-CB
designator DD?
MPN: *
pins: 1 GND, 2 OUT, 3 IN

## MCP23008-E/SO
designator DD?
pins: 1 SCL, 2 SDA, 3 A2, 4 A1, 5 A0, 6 ~{RESET}, 8 INT, 9 Vss, 10 GP0, 11 GP1, 12 GP2, 13 GP3, 14 GP4, 15 GP5, 16 GP6, 17 GP7, 18 Vdd

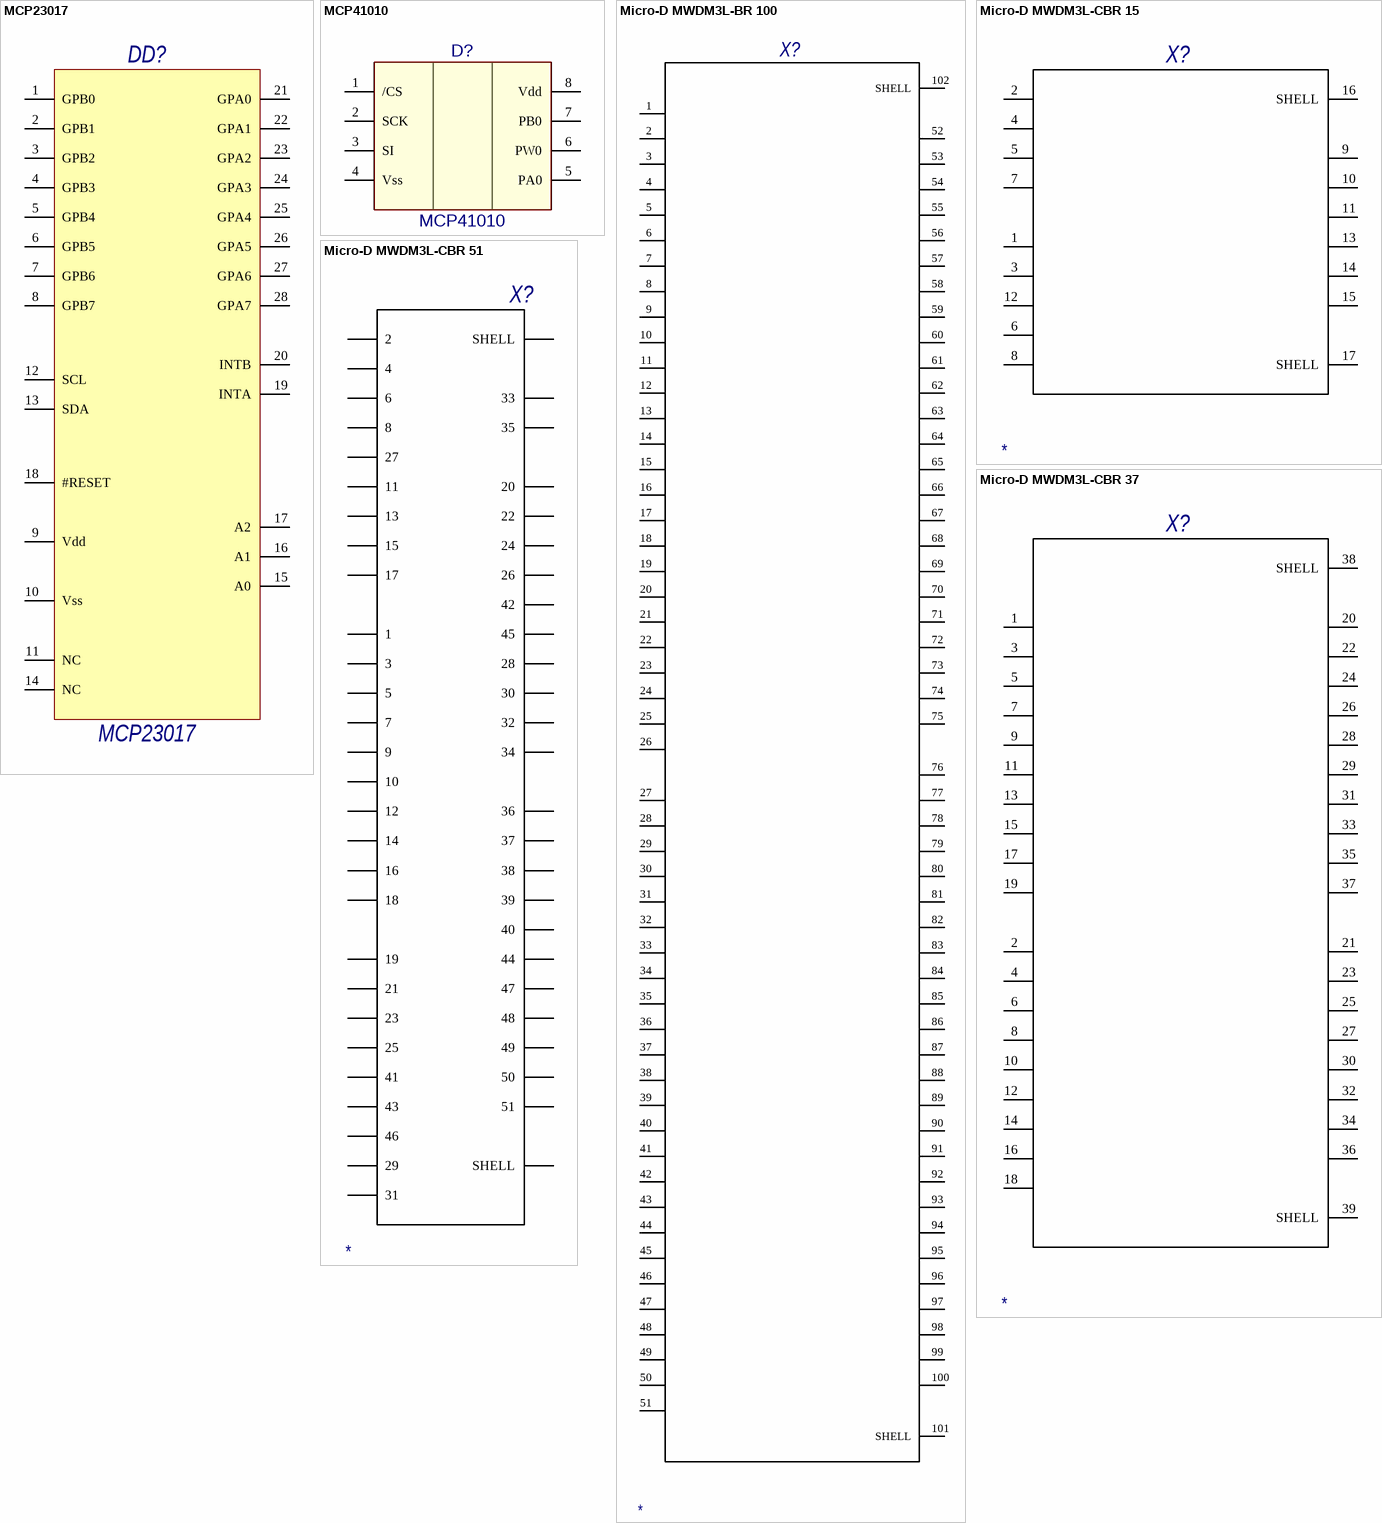
[diagram p21: symbols MCP23017 to Micro-D MWDM3L-CBR 51]

## MCP23017
designator DD?
pins: 1 GPB0, 2 GPB1, 3 GPB2, 4 GPB3, 5 GPB4, 6 GPB5, 7 GPB6, 8 GPB7, 9 Vdd, 10 Vss, 11 NC, 12 SCL, 13 SDA, 14 NC, 15 A0, 16 A1, 17 A2, 18 #RESET, 19 INTA, 20 INTB, 21 GPA0, 22 GPA1, 23 GPA2, 24 GPA3, 25 GPA4, 26 GPA5, 27 GPA6, 28 GPA7

## MCP41010
designator D?
Manufacturer: MICROCHIP; MntType: SMD; BOMDescription: SMD DIGITAL POTENTIOMETER SO-8     MCP41010; MPN: MCP41010; MSL: MSL 1; Package: SO-8; RoHS: Comply; PartType: DIGITAL POTENTIOMETER; Pins: 8
footprint SO-8
pins: 1 /CS, 2 SCK, 3 SI, 4 Vss, 5 PA0, 6 PW0, 7 PB0, 8 Vdd (power)

## Micro-D MWDM3L-BR 100
designator X?
Right Angle TH Micro-D MWDM-CBR 100 Pin; MPN: *
pins: 1, 2, 3, 4, 5, 6, 7, 8, 9, 10, 11, 12, 13, 14, 15, 16, 17, 18, 19, 20, 21, 22, 23, 24, 25, 26, 27, 28, 29, 30, 31, 32, 33, 34, 35, 36, 37, 38, 39, 40, 41, 42, 43, 44, 45, 46, 47, 48, 49, 50, 51, 52, 53, 54, 55, 56, 57, 58, 59, 60, 61, 62, 63, 64, 65, 66, 67, 68, 69, 70, 71, 72, 73, 74, 75, 76, 77, 78, 79, 80, 81, 82, 83, 84, 85, 86, 87, 88, 89, 90, 91, 92, 93, 94, 95, 96, 97, 98, 99, 100, 101 SHELL, 102 SHELL

## Micro-D MWDM3L-CBR 15
designator X?
Right Angle TH Micro-D MWDM-CBR 15 Pin; MPN: *
pins: 1, 2, 3, 4, 5, 6, 7, 8, 9, 10, 11, 12, 13, 14, 15, 16 SHELL, 17 SHELL

## Micro-D MWDM3L-CBR 37
designator X?
Right Angle TH Micro-D MWDM-CBR 37 Pin; MPN: *
pins: 1, 2, 3, 4, 5, 6, 7, 8, 9, 10, 11, 12, 13, 14, 15, 16, 17, 18, 19, 20, 21, 22, 23, 24 gggggggg, 25, 26, 27, 28, 29, 30, 31, 32, 33, 34, 35, 36, 37, 38 SHELL, 39 SHELL

## Micro-D MWDM3L-CBR 51
designator X?
Right Angle TH Micro-D MWDM-CBR 51 Pin; MPN: *
pins: 1, 2, 3, 4, 5, 6, 7, 8, 9, 10, 11, 12, 13, 14, 15, 16, 17, 18, 19, 20, 21, 22, 23, 24, 25, 26, 27, 28, 29, 30, 31, 32, 33, 34, 35, 36, 37, 38, 39, 40, 41, 42, 43, 44, 45, 46, 47, 48, 49, 50, 51, 52 SHELL, 53 SHELL

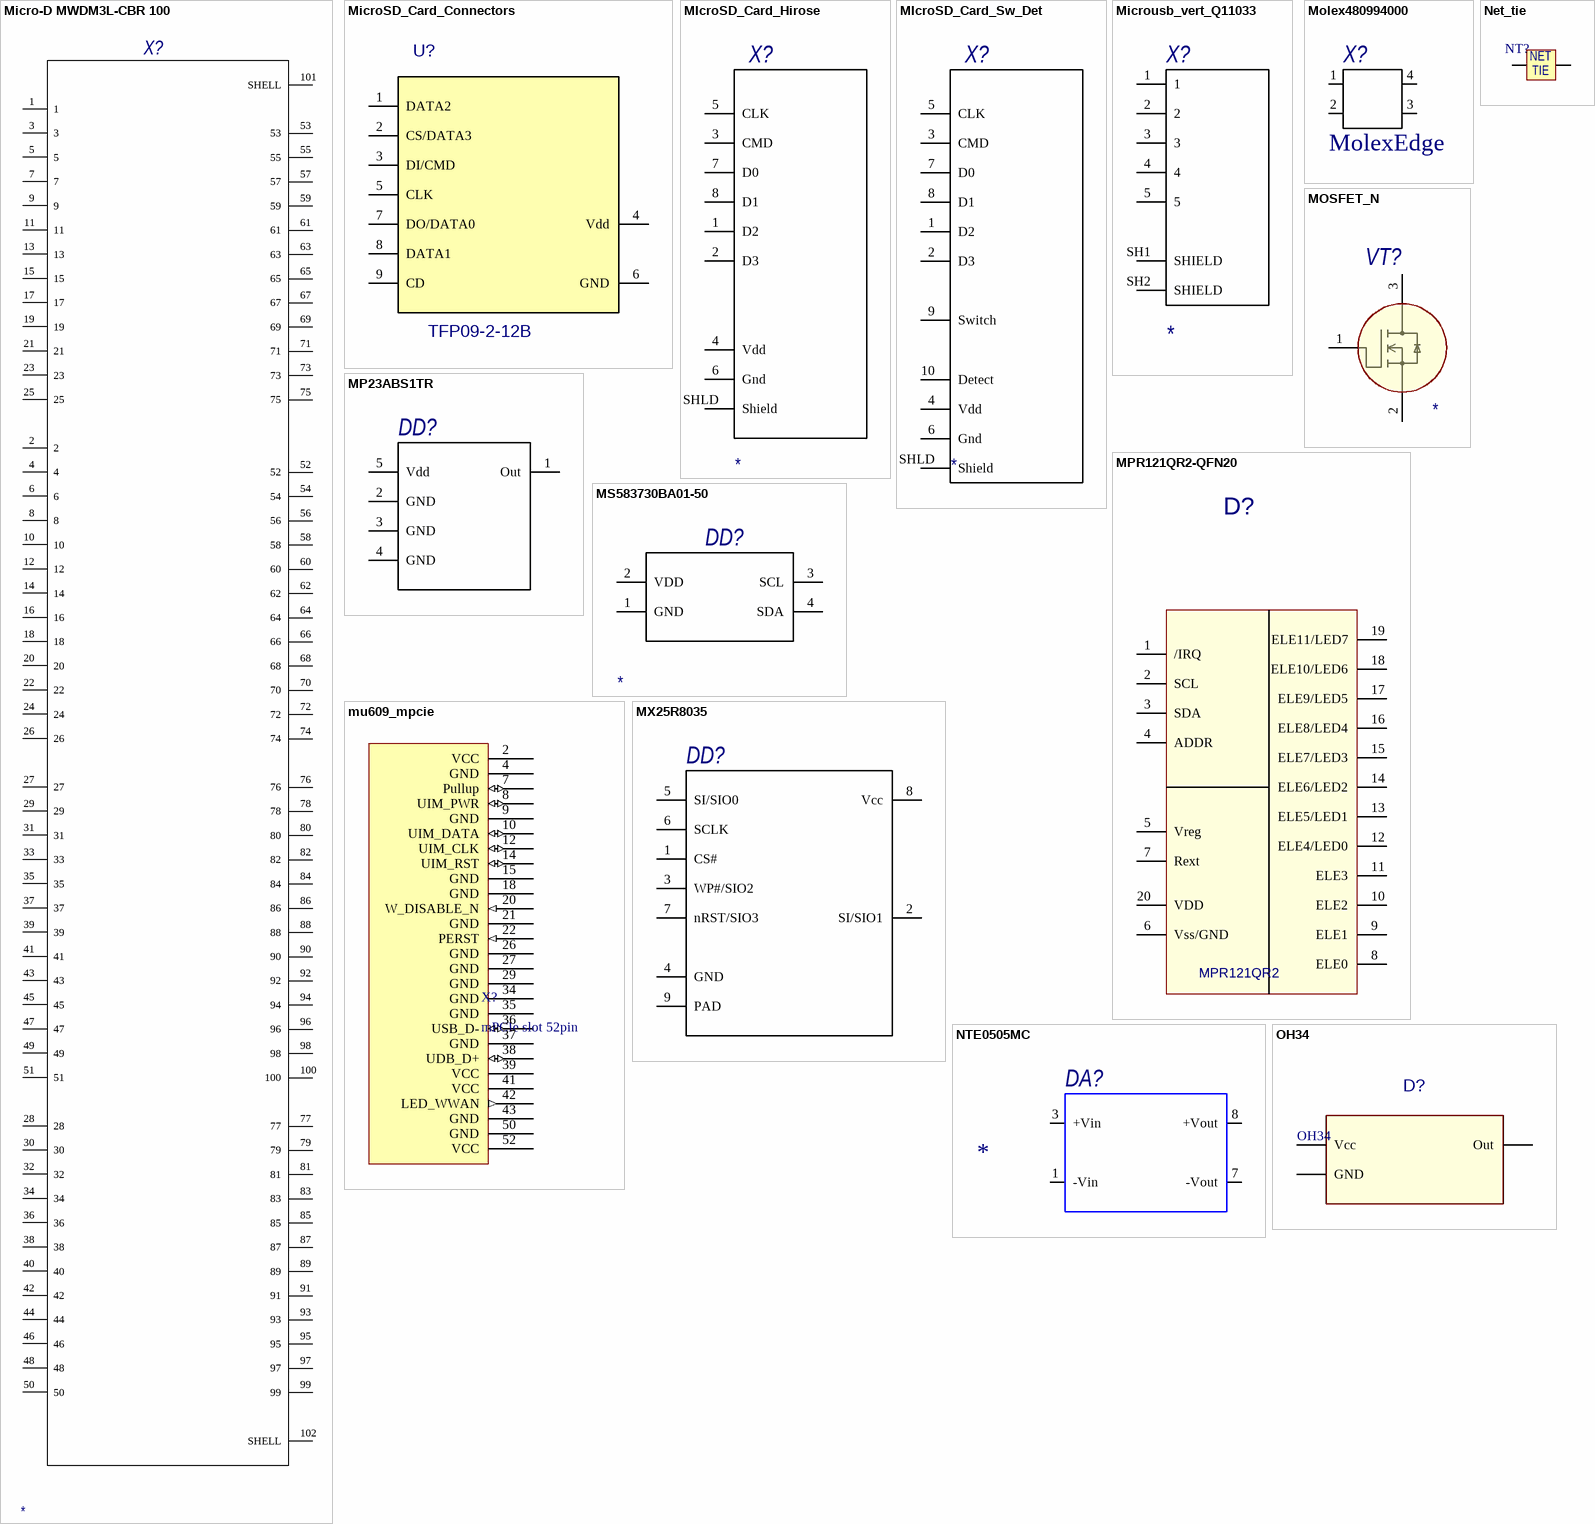
[diagram p22: symbols Micro-D MWDM3L-CBR 100 to OH34]

## Micro-D MWDM3L-CBR 100
designator X?
Right Angle TH Micro-D MWDM-CBR 100 Pin; MPN: *
pins: 1, 2, 3, 4, 5, 6, 7, 8, 9, 10, 11, 12, 13, 14, 15, 16, 17, 18, 19, 20, 21, 22, 23, 24, 25, 26, 27, 28, 29, 30, 31, 32, 33, 34, 35, 36, 37, 38, 39, 40, 41, 42, 43, 44, 45, 46, 47, 48, 49, 50, 51, 52, 53, 54, 55, 56, 57, 58, 59, 60, 61, 62, 63, 64, 65, 66, 67, 68, 69, 70, 71, 72, 73, 74, 75, 76, 77, 78, 79, 80, 81, 82, 83, 84, 85, 86, 87, 88, 89, 90, 91, 92, 93, 94, 95, 96, 97, 98, 99, 100, 101 SHELL, 102 SHELL

## MicroSD_Card_Connectors
designator U?, comment TFP09-2-12B
BOMDescription: SMD CONNECTOR MicroSD     TFP09-2-12B; MntType: SMD; MSL: MSL 1; Package: MicroSD; PartType: CONNECTOR; RoHS: Comply; MPN: TFP09-2-12B
pins: 1 DATA2, 2 CS/DATA3, 3 DI/CMD, 4 Vdd, 5 CLK, 6 GND, 7 DO/DATA0, 8 DATA1, 9 CD

## MIcroSD_Card_Hirose
designator X?
MPN: *
pins: 1 D2, 2 D3, 3 CMD, 4 Vdd, 5 CLK, 6 Gnd, 7 D0, 8 D1, SHLD Shield

## MIcroSD_Card_Sw_Det
designator X?
MPN: *
pins: 1 D2, 2 D3, 3 CMD, 4 Vdd, 5 CLK, 6 Gnd, 7 D0, 8 D1, 9 Switch, 10 Detect, SHLD Shield

## Microusb_vert_Q11033
designator X?
USB - micro B USB 2.0 Receptacle Connector 5 Position Through Hole; MPN: *
pins: 1, 2, 3, 4, 5, SH1 SHIELD, SH2 SHIELD

## Molex480994000
designator X?, comment MolexEdge  (mechanical)
pins: 1, 2, 3, 4

## MOSFET_N
designator VT?
MPN: *
pins: 1, 2, 3

## MP23ABS1TR
designator DD?  (value not drawn)
pins: 1 Out, 2 GND, 3 GND, 4 GND, 5 Vdd

## MPR121QR2-QFN20
designator D?, comment MPR121QR2
Manufacturer: FREESCALE; MntType: SMD; BOMDescription: SMD CAPSENS CONTROLLER QFN20     MPR121QR2; MPN: MPR121QR2; MSL: MSL 1; Package: QFN20; RoHS: Comply; PartType: CAPSENS CONTROLLER; Pins: 20
footprint QFN-20-3MM
pins: 1 /IRQ, 2 SCL, 3 SDA, 4 ADDR, 5 Vreg, 6 Vss/GND, 7 Rext, 8 ELE0, 9 ELE1, 10 ELE2, 11 ELE3, 12 ELE4/LED0, 13 ELE5/LED1, 14 ELE6/LED2, 15 ELE7/LED3, 16 ELE8/LED4, 17 ELE9/LED5, 18 ELE10/LED6, 19 ELE11/LED7, 20 VDD

## MS583730BA01-50
designator DD?
Digital pressure sensor, 0-30 bar; MPN: *
pins: 1 GND "Ground", 2 VDD "Positive supply", 3 SCL "I2C Clock", 4 SDA "I2C Data"

## mu609_mpcie
designator X?, comment mPCIe slot 52pin
footprint MCPIE
pins: 2 VCC (power), 4 GND (power), 7 Pullup (io), 8 UIM_PWR (io), 9 GND (power), 10 UIM_DATA (io), 12 UIM_CLK (io), 14 UIM_RST (io), 15 GND (power), 18 GND (power), 20 W_DISABLE_N (in), 21 GND (power), 22 PERST (in), 26 GND (power), 27 GND (power), 29 GND (power), 34 GND (power), 35 GND (power), 36 USB_D- (io), 37 GND (power), 38 UDB_D+ (io), 39 VCC (power), 41 VCC (power), 42 LED_WWAN (out), 43 GND (power), 50 GND (power), 52 VCC (power)

## MX25R8035
designator DD?  (value not drawn)
pins: 1 CS#, 2 SI/SIO1, 3 WP#/SIO2, 4 GND, 5 SI/SIO0, 6 SCLK, 7 nRST/SIO3, 8 Vcc, 9 PAD

## Net_tie
designator NT?  (value not drawn)  (net tie, no BOM)
Rule: UNIONINDEX{}0[]RULEKIND{}PolygonConnect[]NETSCOPE{}AnyNet[]LAYERKIND{}SameLayer[]NAME{}Schematic Polygon Connect Style[]CONNECTSTYLE{}Direct[]RELIEFCONDUCTORWIDTH{}10mil[]RELIEFENTRIES{}4[]POLYGONRELIEFANGLE{}45 Angle[]AIRGAPWIDTH{}10mil[]UNIT{}Metric[]PcbType{}ProtelPcb; Rule: UNIONINDEX{}0[]RULEKIND{}PlaneConnect[]NETSCOPE{}AnyNet[]LAYERKIND{}SameLayer[]NAME{}Schematic Power Plane Connect Style[]PLANECONNECTSTYLE{}Direct[]RELIEFEXPANSION{}20mil[]RELIEFENTRIES{}4[]RELIEFCONDUCTORWIDTH{}10mil[]RELIEFAIRGAP{}10mil[]UNIT{}Metric[]PcbType{}ProtelPcb; ClassName: NETTIE
footprint NET_TIE 0.3 (Net Tie 0.3mm width)
footprint NET_TIE 0.5 (Net Tie 0.5mm width)
footprint NET_TIE 1 (Net Tie 1mm width)
footprint NET_TIE 1.5 (Net Tie 1.5mm width)
footprint NET_TIE 2 (Net Tie 2mm width)
footprint NET_TIE 2.5 (Net Tie 2.5mm width)
pins: 1, 2
text: NET; TIE

## NTE0505MC
designator DA?
pins: 1 -Vin, 3 +Vin, 7 -Vout, 8 +Vout

## OH34
designator D?
MntType: SMD; BOMDescription: SMD HALL SENSOR SOT23     OH34; MPN: OH34; MSL: MSL 1; Package: SOT23; RoHS: Comply; PartType: HALL SENSOR; Pins: 3
footprint SOT-23
footprint TO92-L
pins: 1 Vcc, 2 Out, 3 GND

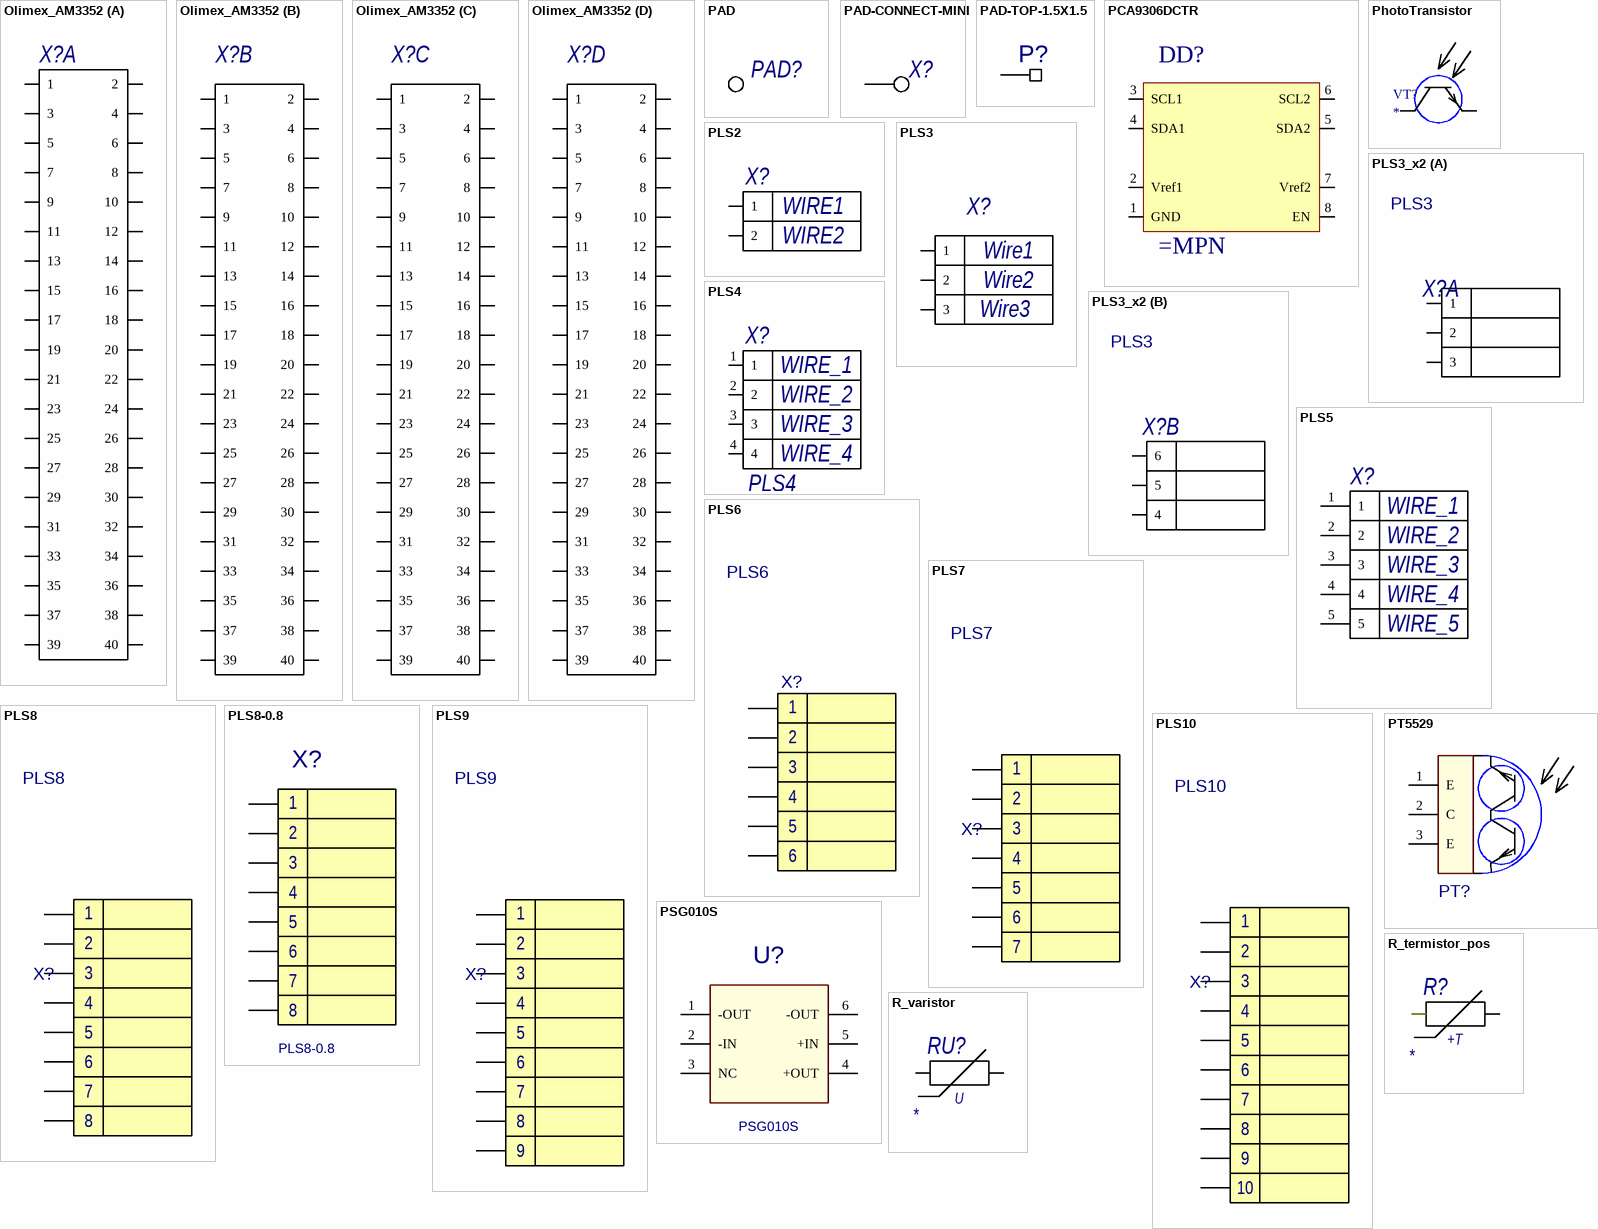
[diagram p23: symbols Olimex_AM3352 to R_varistor]

## Olimex_AM3352
designator X?  (value not drawn)
part A pins: 1, 2, 3, 4, 5, 6, 7, 8, 9, 10, 11, 12, 13, 14, 15, 16, 17, 18, 19, 20, 21, 22, 23, 24, 25, 26, 27, 28, 29, 30, 31, 32, 33, 34, 35, 36, 37, 38, 39, 40
part B pins: 41 1, 42 2, 43 3, 44 4, 45 5, 46 6, 47 7, 48 8, 49 9, 50 10, 51 11, 52 12, 53 13, 54 14, 55 15, 56 16, 57 17, 58 18, 59 19, 60 20, 61 21, 62 22, 63 23, 64 24, 65 25, 66 26, 67 27, 68 28, 69 29, 70 30 (io), 71 31, 72 32, 73 33, 74 34, 75 35, 76 36, 77 37, 78 38, 79 39, 80 40
part C pins: 81 1, 82 2, 83 3, 84 4, 85 5, 86 6, 87 7, 88 8, 89 9, 90 10, 91 11, 92 12, 93 13, 94 14, 95 15, 96 16, 97 17, 98 18, 99 19, 100 20, 101 21, 102 22, 103 23, 104 24, 105 25, 106 26, 107 27, 108 28, 109 29, 110 30, 111 31, 112 32, 113 33, 114 34, 115 35, 116 36, 117 37, 118 38, 119 39, 120 40
part D pins: 121 1, 122 2, 123 3, 124 4, 125 5, 126 6, 127 7, 128 8, 129 9, 130 10, 131 11, 132 12, 133 13, 134 14, 135 15, 136 16, 137 17, 138 18, 139 19, 140 20, 141 21, 142 22 (io), 143 23, 144 24, 145 25, 146 26 (io), 147 27, 148 28, 149 29, 150 30, 151 31, 152 32, 153 33, 154 34, 155 35, 156 36, 157 37, 158 38, 159 39, 160 40

## PAD
designator PAD?, comment PAD-CONNECT-MINI  (value not drawn)  (no BOM)

## PAD-CONNECT-MINI
designator X?  (value not drawn)  (no BOM)
footprint PAD-CONNECT-MINI
pins: 1

## PAD-TOP-1.5X1.5
designator P?  (value not drawn)  (graphical)
MntType: SMD; MSL: MSL 1; RoHS: Comply; BOMDescription: SMD
footprint PAD-TOP-1.5X1.5
pins: 1 pad

## PCA9306DCTR
designator DD?
footprint DCT0008A (SOP, 8-Leads, Body 2.9x3.2mm, Pitch 0.65mm, IPC Medium Density)
pins: 1 GND (power), 2 Vref1 (power), 3 SCL1 (io), 4 SDA1 (io), 5 SDA2 (io), 6 SCL2 (io), 7 Vref2 (power), 8 EN (power)

## PhotoTransistor
designator VT?
BOMDescription: SMD; MntType: SMD; MSL: MSL 1; RoHS: Comply
pins: 1 C, 2 E

## PLS2
designator X?  (value not drawn)
MntType: DIP; BOMDescription: DIP CONNECTOR CONNPLS2     PLS2; MPN: PLS2; MSL: MSL 1; Package: CONNPLS2; RoHS: Comply; PartType: CONNECTOR; Pins: 2; Wire2: WIRE2; Wire1: WIRE1
pins: 1, 2

## PLS3
designator X?
Wire3: Wire3; Wire2: Wire2; Wire1: Wire1
pins: 1, 2, 3

## PLS3_x2
designator X?, comment PLS3
MntType: DIP; BOMDescription: DIP CONNECTOR CONNPLS3     PLS3; MPN: PLS3; MSL: MSL 1; Package: CONNPLS3; RoHS: Comply; PartType: CONNECTOR; Pins: 3
part A pins: 1, 2, 3
part B pins: 4, 5, 6

## PLS4
designator X?  Wire1: WIRE_1  Wire2: WIRE_2  Wire3: WIRE_3  Wire4: WIRE_4
MntType: DIP; BOMDescription: DIP CONNECTOR CONNPLS4     PLS4; MPN: PLS4; MSL: MSL 1; Package: CONNPLS4; RoHS: Comply; PartType: CONNECTOR; Pins: 4
pins: 1, 2, 3, 4

## PLS5
designator X?  Wire5: WIRE_5  Wire4: WIRE_4  Wire3: WIRE_3  Wire2: WIRE_2  Wire1: WIRE_1  (hidden comment: PLS5)
pins: 1, 2, 3, 4, 5

## PLS6
designator X?
MntType: DIP; BOMDescription: DIP CONNECTOR CONNPLS6     PLS6; MPN: PLS6; MSL: MSL 1; Package: CONNPLS6; RoHS: Comply; PartType: CONNECTOR; Pins: 6
pins: 1, 2, 3, 4, 5, 6

## PLS7
designator X?
MntType: DIP; BOMDescription: DIP CONNECTOR CONNPLS7     PLS7; MPN: PLS7; MSL: MSL 1; Package: CONNPLS7; RoHS: Comply; PartType: CONNECTOR; Pins: 7
pins: 1, 2, 3, 4, 5, 6, 7

## PLS8
designator X?
MntType: DIP; BOMDescription: DIP CONNECTOR CONNPLS8     PLS8; MPN: PLS8; MSL: MSL 1; Package: CONNPLS8; RoHS: Comply; PartType: CONNECTOR; Pins: 8
footprint PLS8
pins: 1, 2, 3, 4, 5, 6, 7, 8

## PLS8-0.8
designator X?
MntType: DIP; BOMDescription: DIP CONNECTOR CONNPLS8-0.8     PLS8-0.8; MPN: PLS8-0.8; MSL: MSL 1; Package: CONNPLS8-0.8; RoHS: Comply; PartType: CONNECTOR; Pins: 8
footprint PLS8-0.8
pins: 1, 2, 3, 4, 5, 6, 7, 8

## PLS9
designator X?
MntType: DIP; BOMDescription: DIP CONNECTOR CONNPLS9     PLS9; MPN: PLS9; MSL: MSL 1; Package: CONNPLS9; RoHS: Comply; PartType: CONNECTOR; Pins: 9
pins: 1, 2, 3, 4, 5, 6, 7, 8, 9

## PLS10
designator X?
MntType: DIP; BOMDescription: DIP CONNECTOR CONNPLS10     PLS10; MPN: PLS10; MSL: MSL 1; Package: CONNPLS10; RoHS: Comply; PartType: CONNECTOR; Pins: 10
footprint PLS10
pins: 1, 2, 3, 4, 5, 6, 7, 8, 9, 10

## PSG010S
designator U?
MntType: DIP; BOMDescription: DIP PRESSURE SENSOR PSG010S     PSG010S; MPN: PSG010S; MSL: MSL 1; Package: PSG010S; RoHS: Comply; PartType: PRESSURE SENSOR; Pins: 6
footprint PSG010S
pins: 1 -OUT, 2 -IN, 3 NC, 4 +OUT, 5 +IN, 6 -OUT

## PT5529
designator PT?  (value not drawn)
MPN: PT5529; MntType: DIP; BOMDescription: DIP PHOTOTRANSISTOR PT5529     PT5529; MSL: MSL 1; Package: PT5529; RoHS: Comply; PartType: PHOTOTRANSISTOR; Pins: 3
footprint PT5529B
pins: 1 E, 2 C, 3 E

## R_termistor_pos
designator R?
MPN: *
pins: 1, 2
text: +T

## R_varistor
designator RU?
MPN: *
pins: 1, 2
text: U

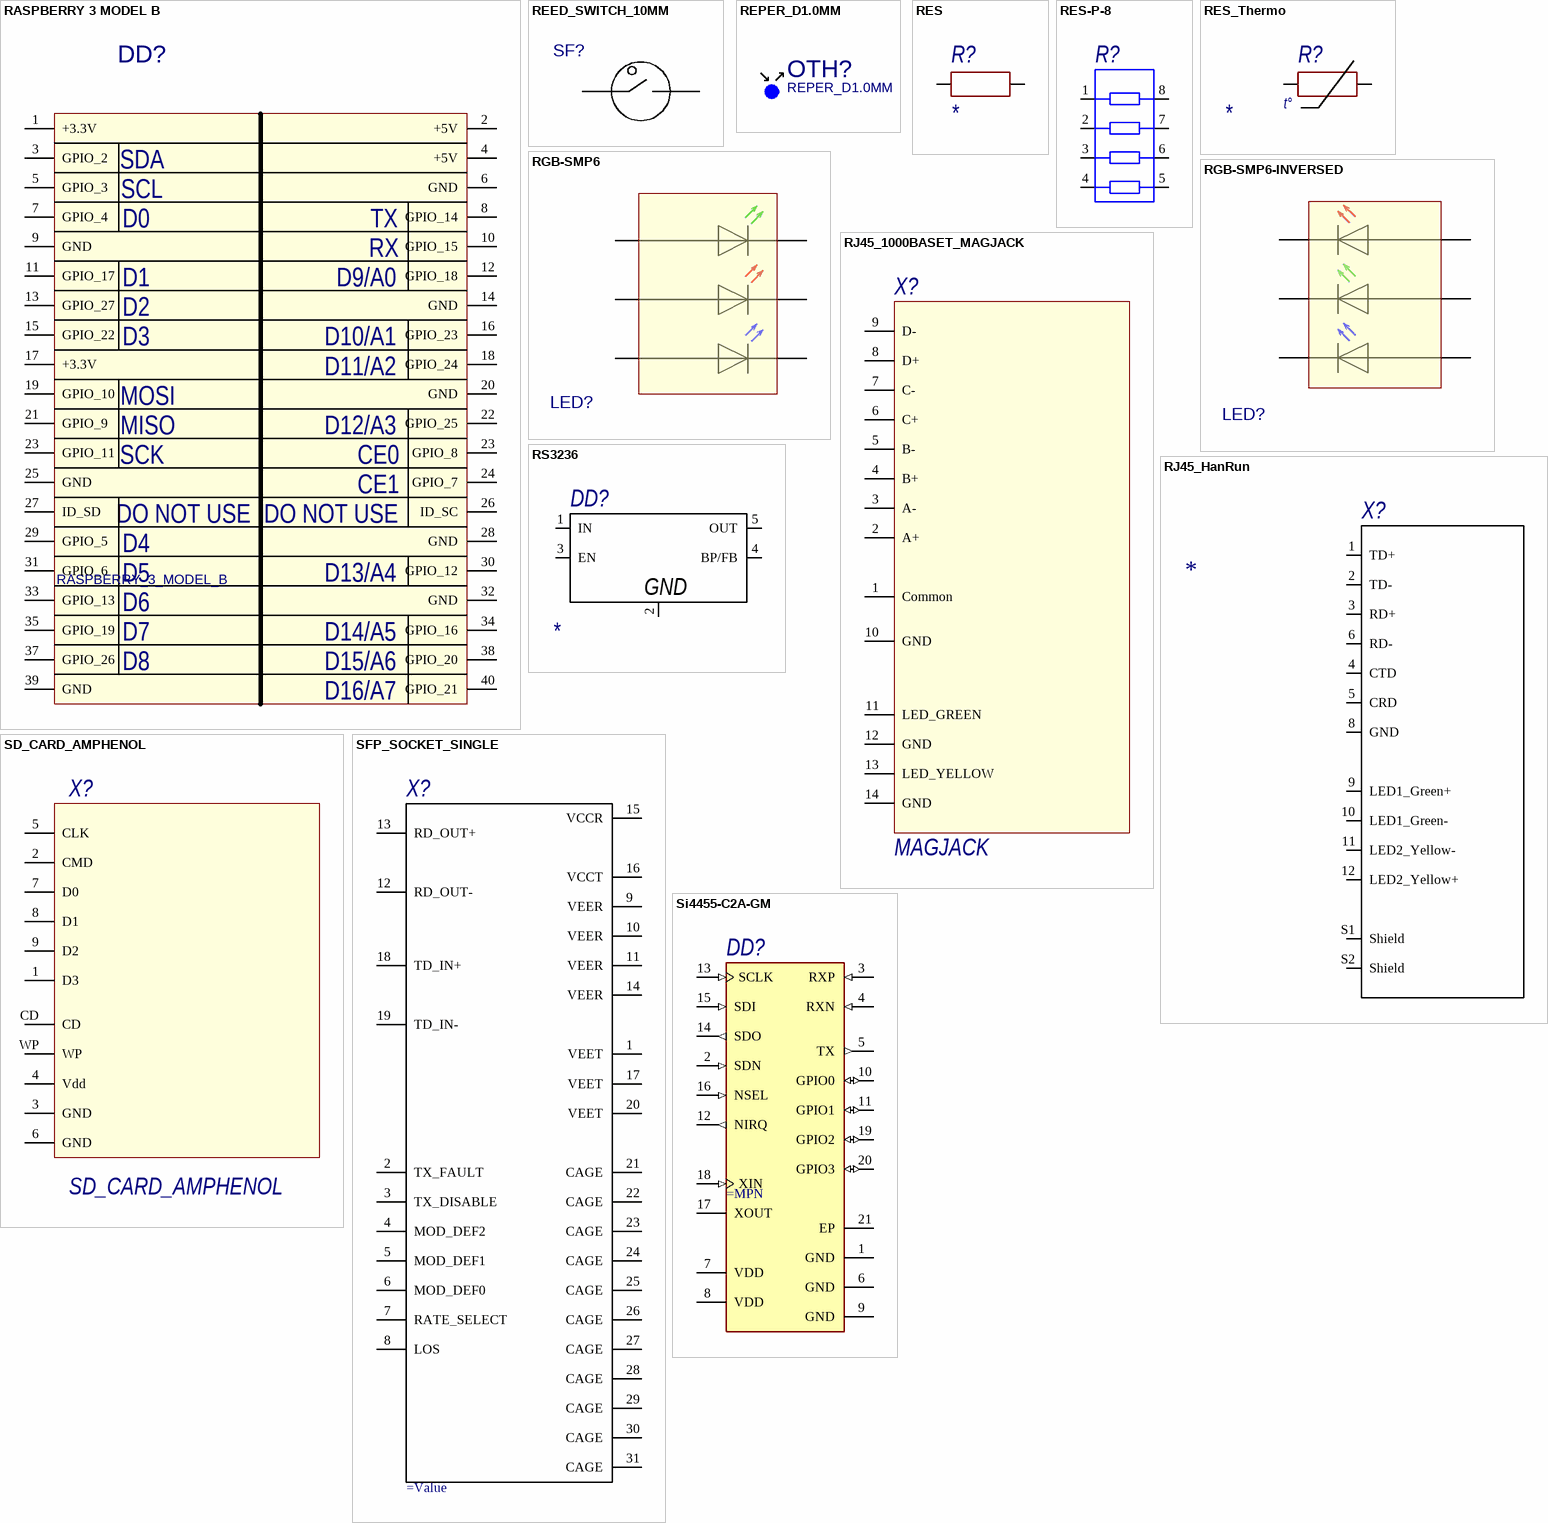
[diagram p24: symbols RASPBERRY 3 MODEL B to Si4455-С2A-GM]

## RASPBERRY 3 MODEL B
designator DD?, comment RASPBERRY_3_MODEL_B
MntType: DIP; BOMDescription: DIP RASPBERRY_3_MODEL_B      RASPBERRY_3_MODEL_B; MPN: RASPBERRY_3_MODEL_B; MSL: MSL 1; RoHS: Comply; PartType: RASPBERRY_3_MODEL_B
footprint Raspberry_B_UNDER
pins: 1 +3.3V, 2 +5V, 3 GPIO_2, 4 +5V, 5 GPIO_3, 6 GND, 7 GPIO_4, 8 GPIO_14, 9 GND, 10 GPIO_15, 11 GPIO_17, 12 GPIO_18, 13 GPIO_27, 14 GND, 15 GPIO_22, 16 GPIO_23, 17 +3.3V, 18 GPIO_24, 19 GPIO_10, 20 GND, 21 GPIO_9, 22 GPIO_25, 23 GPIO_11, 23 GPIO_8, 24 GPIO_7, 25 GND, 26 ID_SC, 27 ID_SD, 28 GND, 29 GPIO_5, 30 GPIO_12, 31 GPIO_6, 32 GND, 33 GPIO_13, 34 GPIO_16, 35 GPIO_19, 37 GPIO_26, 38 GPIO_20, 39 GND, 40 GPIO_21
text: SDA; SCL; D0; TX; RX; D1; D9/A0; D2; D3; D10/A1; D11/A2; MOSI; MISO; D12/A3; SCK; CE0; CE1; DO NOT USE; D4; D5; D13/A4; D6; D7; D14/A5; D8; D15/A6; D16/A7

## REED_SWITCH_10MM
designator SF?  (value not drawn)
MntType: SMD; MSL: MSL 1; RoHS: Comply; BOMDescription: SMD
footprint REED_SWITCH_10MM
pins: 1, 2

## REPER_D1.0MM
designator OTH?  (no BOM)
MntType: SMD; MSL: MSL 1; RoHS: Comply; BOMDescription: SMD
footprint REPER_D1.0MM

## RES
designator R?
MntType: SMD; MSL: MSL 1; RoHS: Comply; PartType: CHIP RESISTOR; Pins: 2; BOMDescription: =MntType+' '+PartType+' '+Package+' '+Value+' '+Tolerance+' '+Voltage+' '+TempCoeff+' '+MPN; Value: *
pins: 1, 2

## RES-P-8
designator R?
pins: 1, 2, 3, 4, 5, 6, 7, 8

## RES_Thermo
designator R?
Value: *
pins: 1, 2
text: t°

## RGB-SMP6
designator LED?
MPN: RGB-SMP6; MntType: SMD; BOMDescription: SMD CHIP RGB LED LEDC5050     RGB-SMP6; MSL: MSL 5; Package: LEDC5050; RoHS: Comply; PartType: CHIP RGB LED; Pins: 6
footprint RGB-SMP6
pins: 1, 2, 3, 4, 5, 6

## RGB-SMP6-INVERSED
designator LED?
MPN: HBC1008-OC S5050RGB21-MTH-ZC; MntType: SMD; BOMDescription: SMD       HBC1008-OC S5050RGB21-MTH-ZC; MSL: MSL 1; RoHS: Comply
footprint RGB-SMP6
pins: 1, 2, 3, 4, 5, 6

## RJ45_1000BASET_MAGJACK
designator X?, comment MAGJACK
pins: 1 Common, 2 A+, 3 A-, 4 B+, 5 B-, 6 C+, 7 C-, 8 D+, 9 D-, 10 GND, 11 LED_GREEN, 12 GND, 13 LED_YELLOW, 14 GND

## RJ45_HanRun
designator X?
pins: 1 TD+, 2 TD-, 3 RD+, 4 CTD, 5 CRD, 6 RD-, 8 GND, 9 LED1_Green+, 10 LED1_Green-, 11 LED2_Yellow-, 12 LED2_Yellow+, S1 Shield, S2 Shield

## RS3236
designator DD?
MPN: *
pins: 1 IN (power), 2 GND (power), 3 EN, 4 BP/FB, 5 OUT (power)

## SD_CARD_AMPHENOL
designator X?
pins: 1 D3, 2 CMD, 3 GND, 4 Vdd, 5 CLK, 6 GND, 7 D0, 8 D1, 9 D2, CD, WP

## SFP_SOCKET_SINGLE
designator X?
pins: 1 VEET, 2 TX_FAULT, 3 TX_DISABLE, 4 MOD_DEF2, 5 MOD_DEF1, 6 MOD_DEF0, 7 RATE_SELECT, 8 LOS, 9 VEER, 10 VEER, 11 VEER, 12 RD_OUT-, 13 RD_OUT+, 14 VEER, 15 VCCR, 16 VCCT, 17 VEET, 18 TD_IN+, 19 TD_IN-, 20 VEET, 21 CAGE, 22 CAGE, 23 CAGE, 24 CAGE, 25 CAGE, 26 CAGE, 27 CAGE, 28 CAGE, 29 CAGE, 30 CAGE, 31 CAGE

## Si4455-С2A-GM
designator DD?
ComponentLink1URL: http://www.silabs.com/; ComponentLink1Description: Manufacturer URL
pins: 1 GND (power) "Ground", 2 SDN (in) "Shutdown (0 - VDD V) - SDN=1, part will be in shutdown mode and contents of all registers are lost. SDN=0, all other modes", 3 RXP (in) "Differential RF receiver input pin", 4 RXN (in) "Differential RF receiver input pin", 5 TX (out) "Transmit RF output pin", 6 GND (power) "Ground", 7 VDD (power) "Supply voltage", 8 VDD (power) "Supply voltage", 9 GND (power) "Ground", 10 GPIO0 (io) "General Purpose Digital I/O", 11 GPIO1 (io) "General Purpose Digital I/O", 12 NIRQ (out) "Interrupt Status Output - nIRQ = 0, interrupt event has occurred. Read interrupt status for event details", 13 SCLK (in) "Serial Clock Input (0 - VDD V): Provides serial data clock for 4-line serial data bus", 14 SDO (out) "Serial Data Output (0 - VDD V): Provides serial data readback function of internal control registers", 15 SDI (in) "Serial Data Input (0 - VDD V): Serial data stream input for 4-line serial data bus", 16 NSEL (in) "Serial Interface Select Input (0 - VDD V): Provides select/enable function for 4-line serial data bus", 17 XOUT "Crystal Oscillator Output", 18 XIN (in) "Crystal Oscillator Input: No dc bias required, but if used, should be set to 0.7 V", 19 GPIO2 (io) "General Purpose Digital I/O", 20 GPIO3 (io) "General Purpose Digital I/O", 21 EP

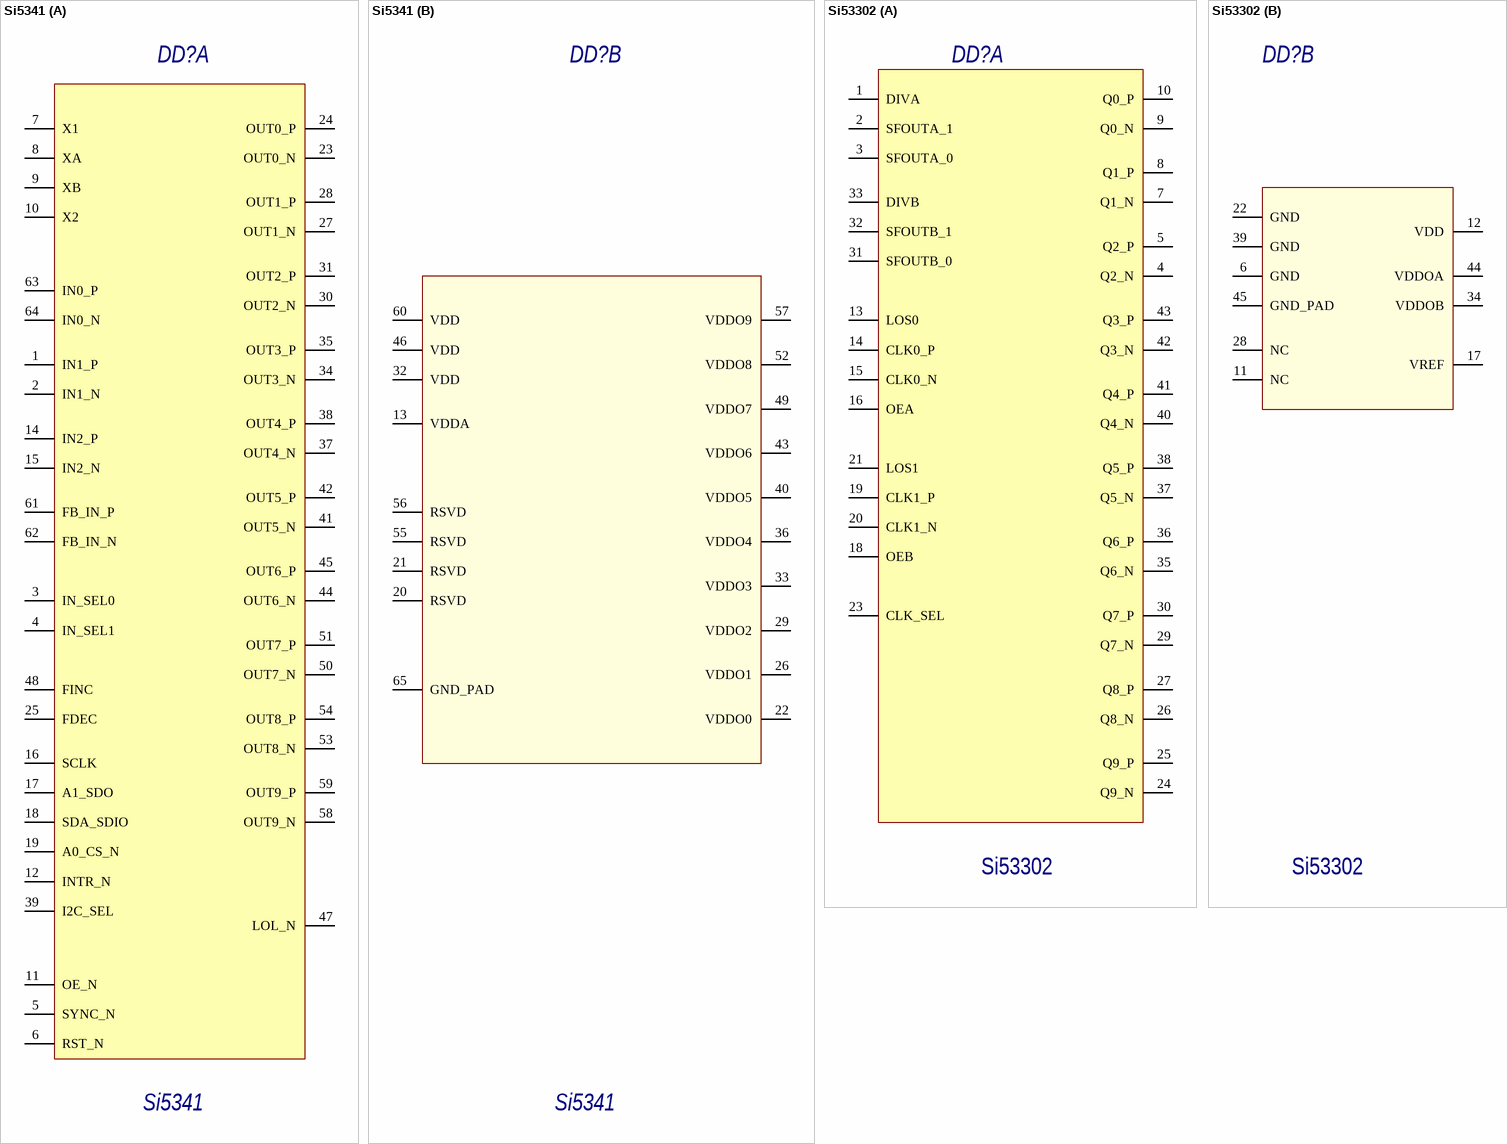
[diagram p25: symbols Si5341 to Si53302]

## Si5341
designator DD?
part A pins: 1 IN1_P, 2 IN1_N, 3 IN_SEL0, 4 IN_SEL1, 5 SYNC_N, 6 RST_N, 7 X1, 8 XA, 9 XB, 10 X2, 11 OE_N, 12 INTR_N, 14 IN2_P, 15 IN2_N, 16 SCLK, 17 A1_SDO, 18 SDA_SDIO, 19 A0_CS_N, 23 OUT0_N, 24 OUT0_P, 25 FDEC, 27 OUT1_N, 28 OUT1_P, 30 OUT2_N, 31 OUT2_P, 34 OUT3_N, 35 OUT3_P, 37 OUT4_N, 38 OUT4_P, 39 I2C_SEL, 41 OUT5_N, 42 OUT5_P, 44 OUT6_N, 45 OUT6_P, 47 LOL_N, 48 FINC, 50 OUT7_N, 51 OUT7_P, 53 OUT8_N, 54 OUT8_P, 58 OUT9_N, 59 OUT9_P, 61 FB_IN_P, 62 FB_IN_N, 63 IN0_P, 64 IN0_N
part B pins: 13 VDDA, 20 RSVD, 21 RSVD, 22 VDDO0, 26 VDDO1, 29 VDDO2, 32 VDD, 33 VDDO3, 36 VDDO4, 40 VDDO5, 43 VDDO6, 46 VDD, 49 VDDO7, 52 VDDO8, 55 RSVD, 56 RSVD, 57 VDDO9, 60 VDD, 65 GND_PAD

## Si53302
designator DD?
part A pins: 1 DIVA, 2 SFOUTA_1, 3 SFOUTA_0, 4 Q2_N, 5 Q2_P, 7 Q1_N, 8 Q1_P, 9 Q0_N, 10 Q0_P, 13 LOS0, 14 CLK0_P, 15 CLK0_N, 16 OEA, 18 OEB, 19 CLK1_P, 20 CLK1_N, 21 LOS1, 23 CLK_SEL, 24 Q9_N, 25 Q9_P, 26 Q8_N, 27 Q8_P, 29 Q7_N, 30 Q7_P, 31 SFOUTB_0, 32 SFOUTB_1, 33 DIVB, 35 Q6_N, 36 Q6_P, 37 Q5_N, 38 Q5_P, 40 Q4_N, 41 Q4_P, 42 Q3_N, 43 Q3_P
part B pins: 6 GND, 11 NC, 12 VDD, 17 VREF, 22 GND, 28 NC, 34 VDDOB, 39 GND, 44 VDDOA, 45 GND_PAD

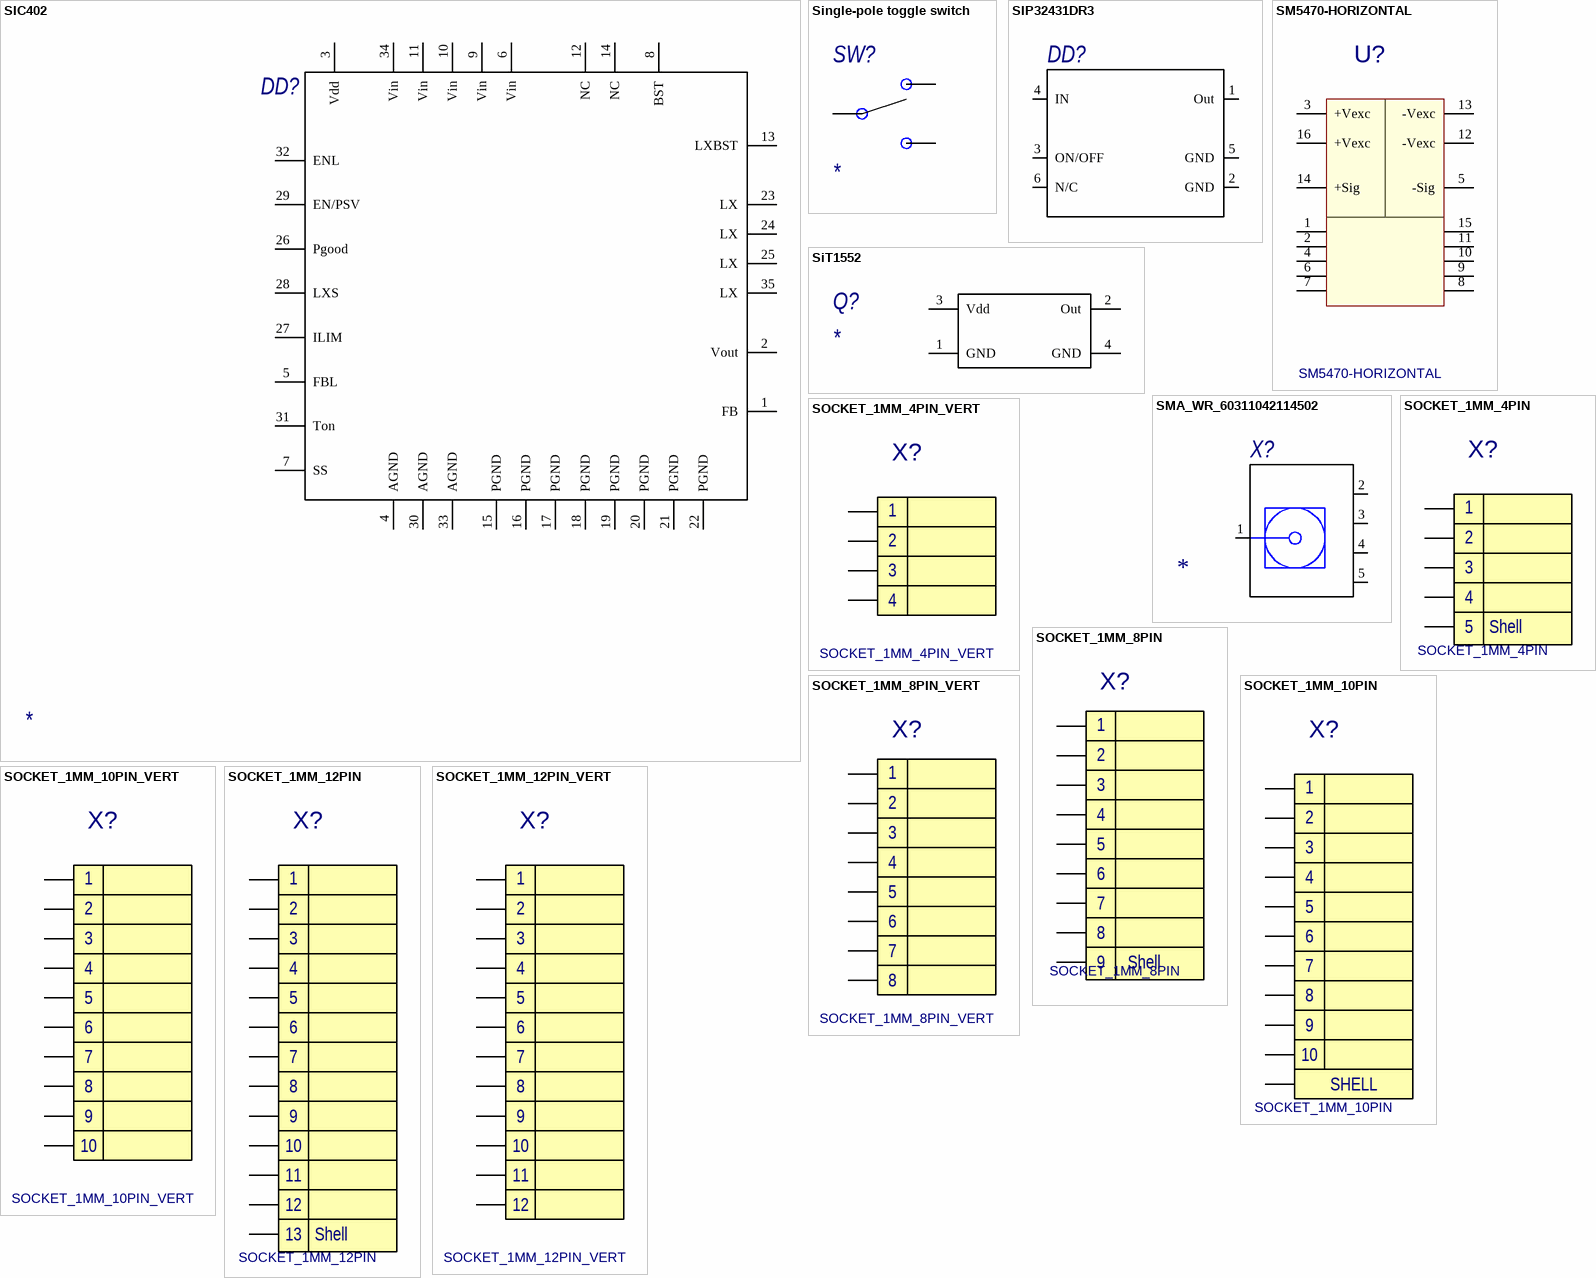
[diagram p26: symbols SIC402 to SOCKET_1MM_12PIN_VERT]

## SIC402
designator DD?
pins: 1 FB, 2 Vout, 3 Vdd, 4 AGND, 5 FBL, 6 Vin, 7 SS, 8 BST, 9 Vin, 10 Vin, 11 Vin, 12 NC, 13 LXBST, 14 NC, 15 PGND, 16 PGND, 17 PGND, 18 PGND, 19 PGND, 20 PGND, 21 PGND, 22 PGND, 23 LX, 24 LX, 25 LX, 26 Pgood, 27 ILIM, 28 LXS, 29 EN/PSV, 30 AGND, 31 Ton, 32 ENL, 33 AGND, 34 Vin, 35 LX

## Single-pole toggle switch
designator SW?
Toggle Switch SPDT Through Hole; MPN: *
pins: 1 P2, 2 COM, 3 P3

## SIP32431DR3
designator DD?  (value not drawn)
pins: 1 Out, 2 GND, 3 ON/OFF, 4 IN, 5 GND, 6 N/C

## SiT1552
designator Q?
MPN: *
pins: 1 GND, 2 Out, 3 Vdd, 4 GND

## SM5470-HORIZONTAL
designator U?
MPN: SM5470-X-D-B; MntType: DIP; BOMDescription: DIP PRESSURE SENSOR SM5470-X-D-B     SM5470-X-D-B; MSL: MSL 1; Package: SM5470-X-D-B; RoHS: Comply; PartType: PRESSURE SENSOR; Pins: 6
footprint SM5470-X-D-B
pins: 1, 2, 3 +Vexc, 4, 5 -Sig, 6, 7, 8, 9, 10, 11, 12 -Vexc, 13 -Vexc, 14 +Sig, 15, 16 +Vexc

## SMA_WR_60311042114502
designator X?
pins: 1 Signal "Signal Pin", 2 GND (power), 3 GND (power), 4 GND (power), 5 GND (power)

## SOCKET_1MM_4PIN
designator X?
MntType: SMD; BOMDescription: SMD FPC CONNECTOR FPC 1X4; MSL: MSL 1; Package: FPC 1X4; RoHS: Comply; PartType: FPC CONNECTOR; Pins: 4
footprint SOCKET_1MM_4PIN
pins: 1, 2, 3, 4, Shell
text: 5

## SOCKET_1MM_4PIN_VERT
designator X?
MntType: SMD; BOMDescription: SMD FPC CONNECTOR FPC 1X4; MSL: MSL 1; Package: FPC 1X4; RoHS: Comply; PartType: FPC CONNECTOR; Pins: 4
footprint SOCKET_1MM_4PIN_VERT
pins: 1, 2, 3, 4

## SOCKET_1MM_8PIN
designator X?
MntType: SMD; BOMDescription: SMD FPC CONNECTOR FPC 1X8; MSL: MSL 1; Package: FPC 1X8; RoHS: Comply; PartType: FPC CONNECTOR; Pins: 8
footprint SOCKET_1MM_8PIN
pins: 1, 2, 3, 4, 5, 6, 7, 8, Shell
text: 9

## SOCKET_1MM_8PIN_VERT
designator X?
MntType: SMD; BOMDescription: SMD FPC CONNECTOR FPC 1X8; MSL: MSL 1; Package: FPC 1X8; RoHS: Comply; PartType: FPC CONNECTOR; Pins: 8
footprint SOCKET_1MM_8PIN_VERT
pins: 1, 2, 3, 4, 5, 6, 7, 8

## SOCKET_1MM_10PIN
designator X?
MntType: SMD; BOMDescription: SMD FPC CONNECTOR FPC 1X10; MSL: MSL 1; Package: FPC 1X10; RoHS: Comply; PartType: FPC CONNECTOR; Pins: 10
footprint SOCKET_1MM_10PIN
pins: 1, 2, 3, 4, 5, 6, 7, 8, 9, 10, SHELL 10

## SOCKET_1MM_10PIN_VERT
designator X?
MntType: SMD; BOMDescription: SMD FPC CONNECTOR FPC 1X10; MSL: MSL 1; Package: FPC 1X10; RoHS: Comply; PartType: FPC CONNECTOR; Pins: 10
footprint SOCKET_1MM_10PIN_VERT
pins: 1, 2, 3, 4, 5, 6, 7, 8, 9, 10

## SOCKET_1MM_12PIN
designator X?
MntType: SMD; BOMDescription: SMD FPC CONNECTOR FPC 1X12; MSL: MSL 1; Package: FPC 1X12; RoHS: Comply; PartType: FPC CONNECTOR; Pins: 12
footprint SOCKET_1MM_12PIN
pins: 1, 2, 3, 4, 5, 6, 7, 8, 9, 10, 11, 12, Shell
text: 13

## SOCKET_1MM_12PIN_VERT
designator X?
MntType: SMD; BOMDescription: SMD FPC CONNECTOR FPC 1X12; MSL: MSL 1; Package: FPC 1X12; RoHS: Comply; PartType: FPC CONNECTOR; Pins: 12
footprint SOCKET_1MM_12PIN_VERT
pins: 1, 2, 3, 4, 5, 6, 7, 8, 9, 10, 11, 12

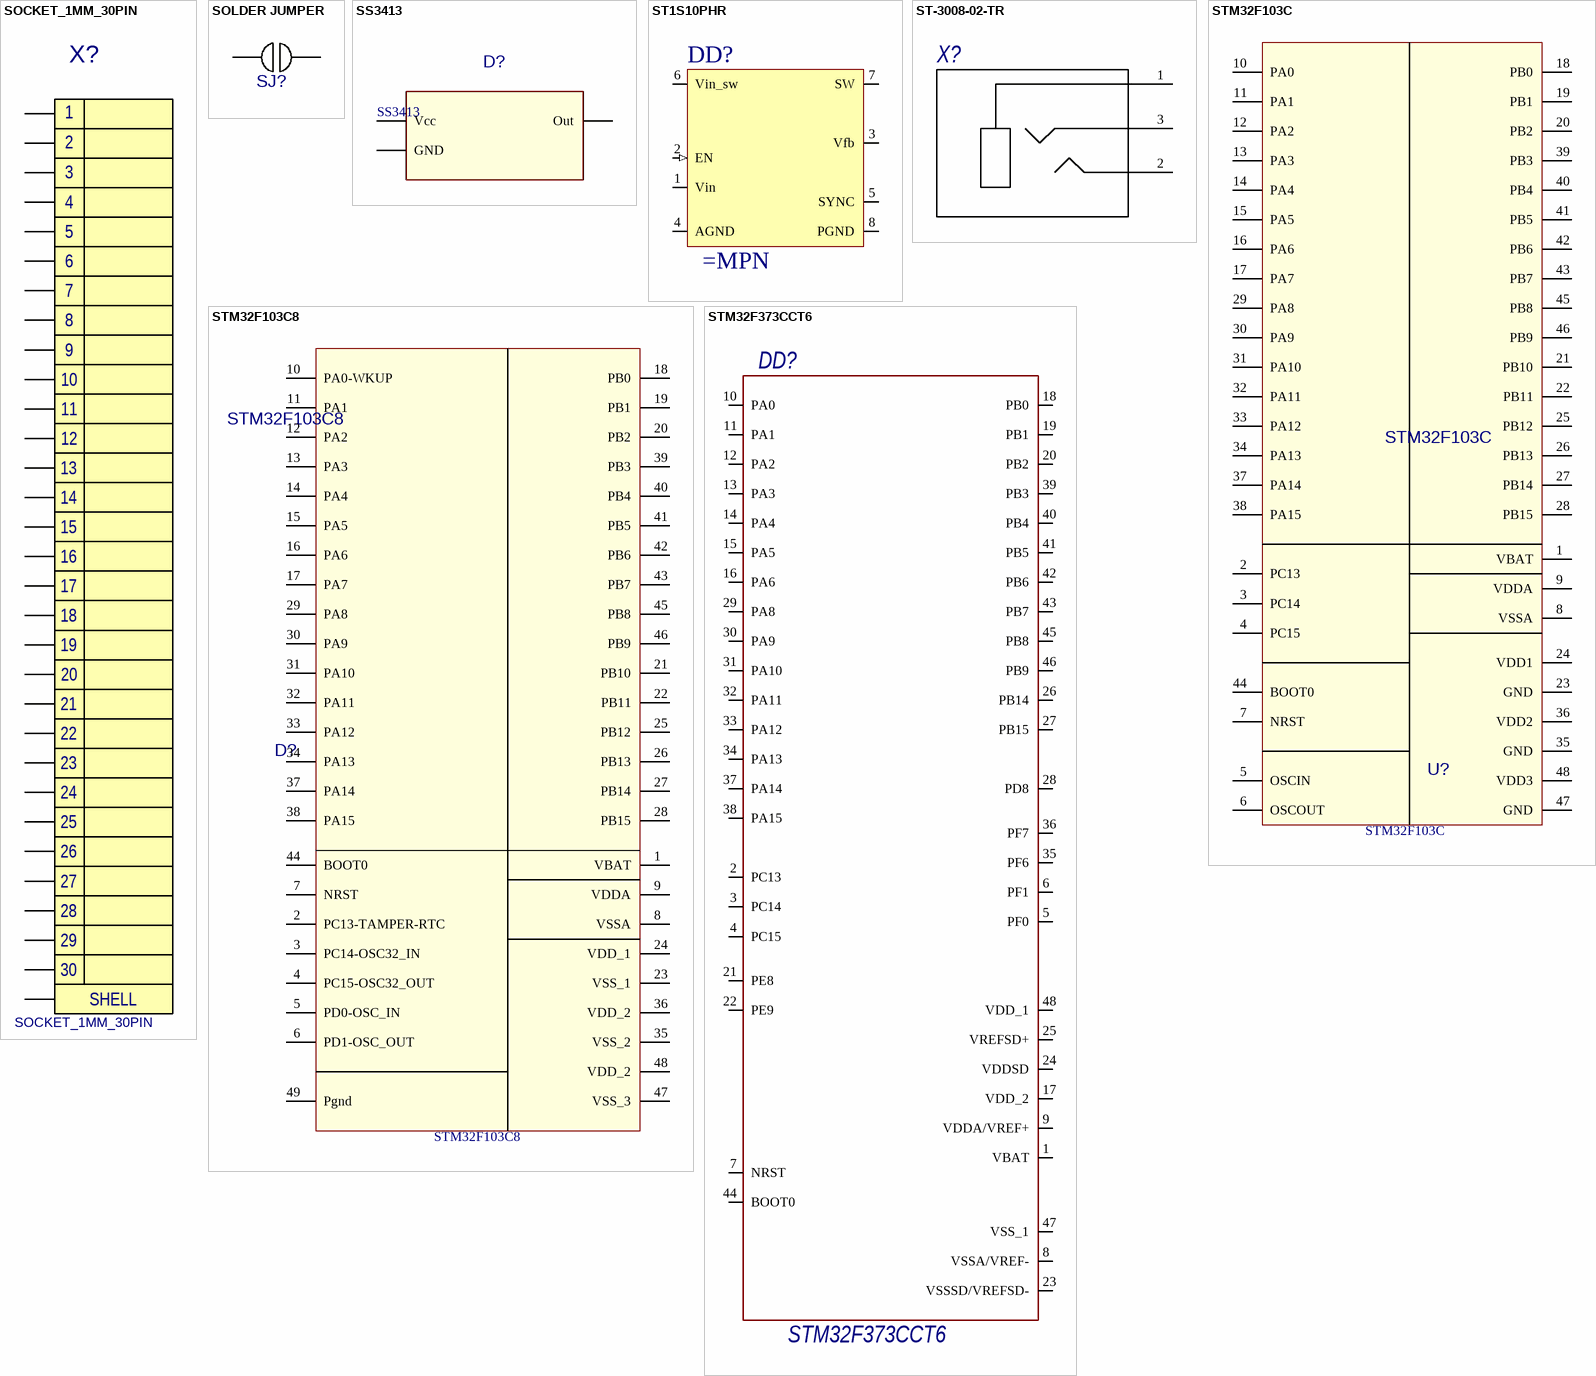
[diagram p27: symbols SOCKET_1MM_30PIN to STM32F373CCT6]

## SOCKET_1MM_30PIN
designator X?
MntType: SMD; BOMDescription: SMD FPC CONNECTOR FPC 1X30; MSL: MSL 1; Package: FPC 1X30; RoHS: Comply; PartType: FPC CONNECTOR; Pins: 30
footprint SOCKET_1MM_30PIN
pins: 1, 2, 3, 4, 5, 6, 7, 8, 9, 10, 11, 12, 13, 14, 15, 16, 17, 18, 19, 20, 21, 22, 23, 24, 25, 26, 27, 28, 29, 30, SHELL 31

## SOLDER JUMPER
designator SJ?, comment SolderJumper  (value not drawn)
Value: 0R; MntType: SMD; MSL: MSL 1; RoHS: Comply; PartType: CHIP RESISTOR; Pins: 2; BOMDescription: =MntType+' '+PartType+' '+Package+' '+Value+' '+Tolerance+' '+Voltage+' '+TempCoeff+' '+MPN
footprint SJ603
footprint RESC0603N
pins: 1, 2

## SS3413
designator D?
MntType: SMD; BOMDescription: SMD HALL SENSOR SOT23     SS3413; MPN: SS3413; MSL: MSL 1; Package: SOT23; RoHS: Comply; PartType: HALL SENSOR; Pins: 3
footprint SOT-23
footprint TO92-L
pins: 1 Vcc, 2 GND, 3 Out

## ST1S10PHR
designator DD?
pins: 1 Vin (power), 2 EN (in), 3 Vfb (power), 4 AGND (power), 5 SYNC (power), 6 Vin_sw (power), 7 SW (power), 8 PGND (power)

## ST-3008-02-TR
designator X?
pins: 1, 2, 3

## STM32F103C
designator U?
Manufacturer: STM; MntType: SMD; BOMDescription: SMD MCU LQFP48     STM32F103C; MSL: MSL 1; Package: LQFP48; RoHS: Comply; PartType: MCU; Pins: 48; MPN: STM32F103C
footprint LQFP48
pins: 1 VBAT, 2 PC13, 3 PC14, 4 PC15, 5 OSCIN, 6 OSCOUT, 7 NRST, 8 VSSA, 9 VDDA, 10 PA0, 11 PA1, 12 PA2, 13 PA3, 14 PA4, 15 PA5, 16 PA6, 17 PA7, 18 PB0, 19 PB1, 20 PB2, 21 PB10, 22 PB11, 23 GND, 24 VDD1, 25 PB12, 26 PB13, 27 PB14, 28 PB15, 29 PA8, 30 PA9, 31 PA10, 32 PA11, 33 PA12, 34 PA13, 35 GND, 36 VDD2, 37 PA14, 38 PA15, 39 PB3, 40 PB4, 41 PB5, 42 PB6, 43 PB7, 44 BOOT0, 45 PB8, 46 PB9, 47 GND, 48 VDD3

## STM32F103C8
designator D?
Manufacturer: STM; MntType: SMD; BOMDescription: SMD MCU VFQFPN48     STM32F103C8; MSL: MSL 1; Package: VFQFPN48; RoHS: Comply; PartType: MCU; Pins: 48; MPN: STM32F103C8
footprint VFQFPN48 7X7
pins: 1 VBAT, 2 PC13-TAMPER-RTC, 3 PC14-OSC32_IN, 4 PC15-OSC32_OUT, 5 PD0-OSC_IN, 6 PD1-OSC_OUT, 7 NRST, 8 VSSA, 9 VDDA, 10 PA0-WKUP, 11 PA1, 12 PA2, 13 PA3, 14 PA4, 15 PA5, 16 PA6, 17 PA7, 18 PB0, 19 PB1, 20 PB2, 21 PB10, 22 PB11, 23 VSS_1, 24 VDD_1, 25 PB12, 26 PB13, 27 PB14, 28 PB15, 29 PA8, 30 PA9, 31 PA10, 32 PA11, 33 PA12, 34 PA13, 35 VSS_2, 36 VDD_2, 37 PA14, 38 PA15, 39 PB3, 40 PB4, 41 PB5, 42 PB6, 43 PB7, 44 BOOT0, 45 PB8, 46 PB9, 47 VSS_3, 48 VDD_2, 49 Pgnd

## STM32F373CCT6
designator DD?
pins: 1 VBAT, 2 PC13, 3 PC14, 4 PC15, 5 PF0, 6 PF1, 7 NRST, 8 VSSA/VREF-, 9 VDDA/VREF+, 10 PA0, 11 PA1, 12 PA2, 13 PA3, 14 PA4, 15 PA5, 16 PA6, 17 VDD_2, 18 PB0, 19 PB1, 20 PB2, 21 PE8, 22 PE9, 23 VSSSD/VREFSD-, 24 VDDSD, 25 VREFSD+, 26 PB14, 27 PB15, 28 PD8, 29 PA8, 30 PA9, 31 PA10, 32 PA11, 33 PA12, 34 PA13, 35 PF6, 36 PF7, 37 PA14, 38 PA15, 39 PB3, 40 PB4, 41 PB5, 42 PB6, 43 PB7, 44 BOOT0, 45 PB8, 46 PB9, 47 VSS_1, 48 VDD_1

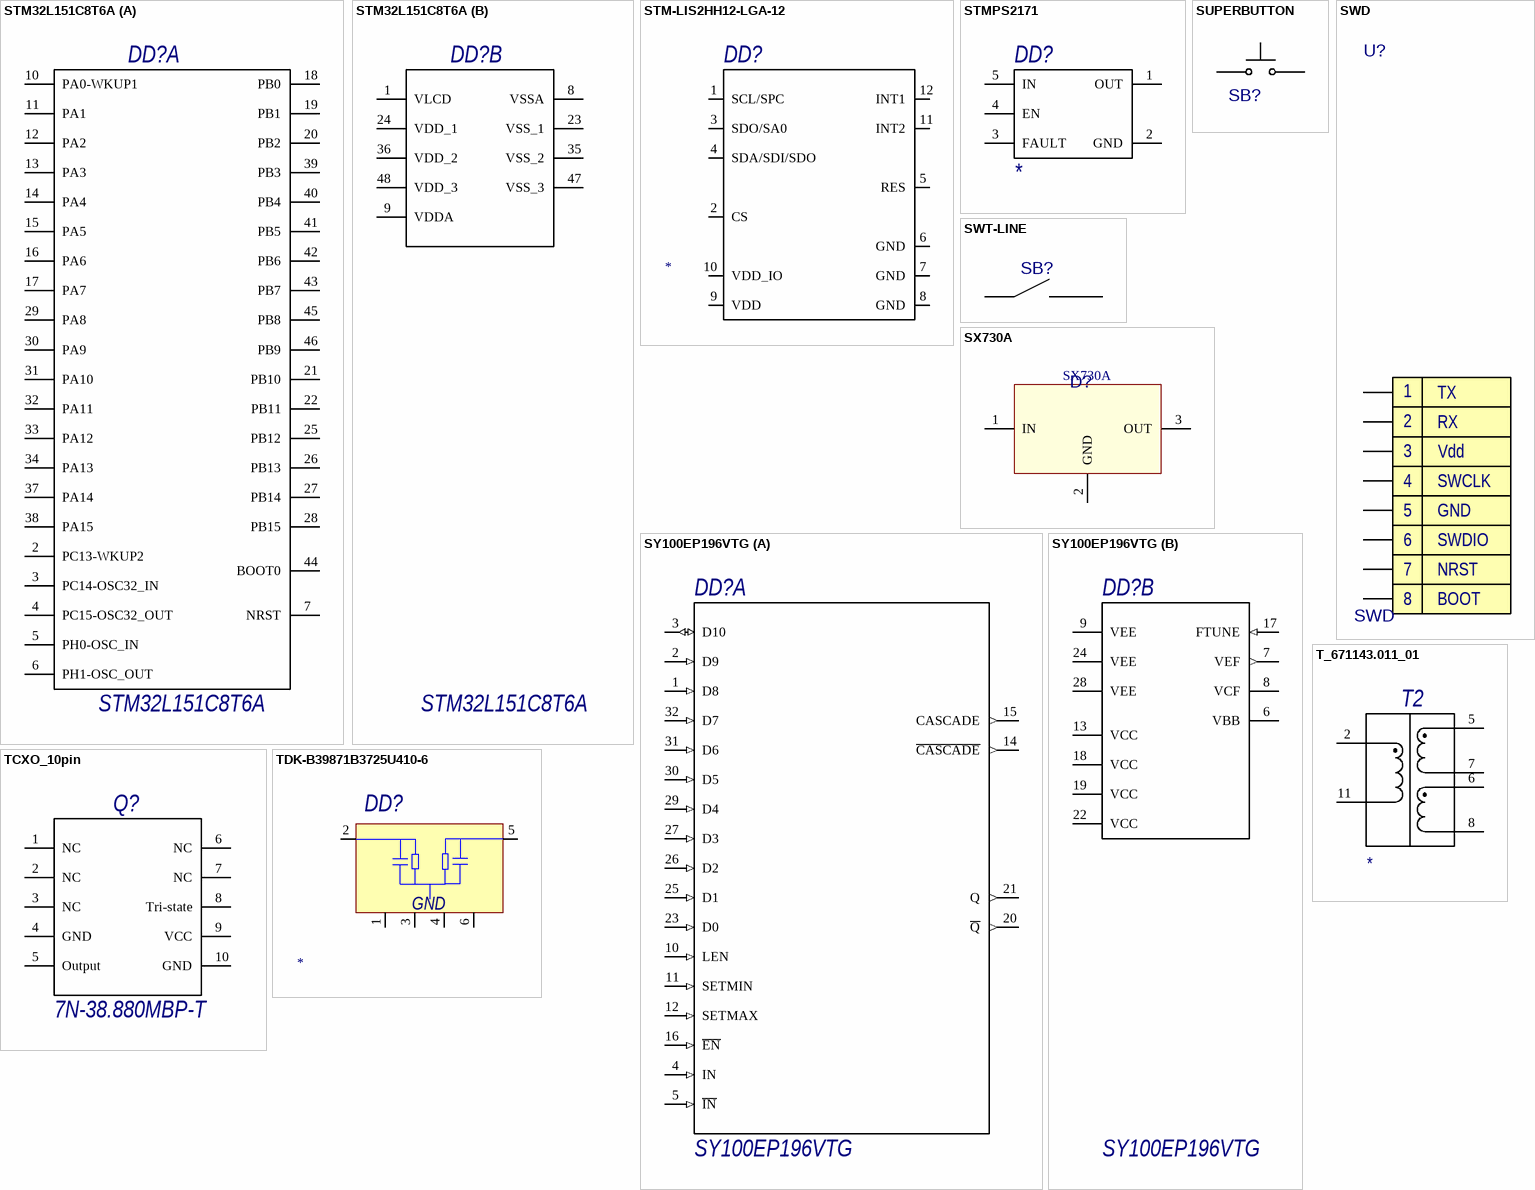
[diagram p28: symbols STM32L151C8T6A to TDK-B39871B3725U410-6]

## STM32L151C8T6A
designator DD?
ARM Cortex-M3 32-bit MCU, 64 KB Flash, 32 KB Internal RAM, 37 I/Os, 48-Pin LQFP, -40 to 85 degC, Tray. Interfaces: I2C, SPI, USART, USB. SMD. LQFP48; Manufacturer: STMicroelectronics; FLASH Size (Prog) (kB): 64; Internal RAM Size (kB): 32; Supply Voltage(Vcc) min (V): 1.8; Data E2PROM nom (B): 4096; I/Os (High Current): 37; D/A Converter: 2; Packing: Tray; ComponentLink2Description: Datasheet; Package Description: 48-Pin Low Profile Quad Flat Package, Body 7 x 7 mm, Pitch 0.5 mm; Mounting Technology: Surface Mount; Package Reference: LQFP48; ComponentLink1Description: Manufacturer URL; Operating Frequency(F) (Processor speed) (MHz): 32; ComponentLink2URL: http://www.st.com/st-web-ui/static/active/en/resource/technical/document/datasheet/DM00078689.pdf; ComponentLink1URL: http://www.st.com/; PartNumber: STM32L151C8T6A; Core: ARM Cortex-M3; DatasheetVersion: Rev. 4
footprint STM-LQFP48_L (QFP, 48-Leads, Body 7x7mm, Pitch 0.5mm, IPC High Density)
footprint STM-LQFP48_M (QFP, 48-Leads, Body 7x7mm, Pitch 0.5mm, IPC Low Density)
footprint STM-LQFP48_N (QFP, 48-Leads, Body 7x7mm, Pitch 0.5mm, IPC Medium Density)
part A pins: 2 PC13-WKUP2 "PC13/RTC_TAMP1/RTC_TS/RTC_OUT/WKUP2", 3 PC14-OSC32_IN "PC14/OSC32_IN", 4 PC15-OSC32_OUT "PC15/OSC32_OUT", 5 PH0-OSC_IN "PH0/OSC_IN", 6 PH1-OSC_OUT "PH1/OSC_OUT", 7 NRST, 10 PA0-WKUP1 "PA0/USART2_CTS/TIM2_CH1_ETR/WKUP1/ADC_IN0/COMP1_INP/RTC_TAMP2", 11 PA1 "PA1/USART2_RTS/TIM2_CH2/LCD_SEG0/ADC_IN1/COMP1_INP", 12 PA2 "PA2/USART2_TX/TIM2_CH3/TIM9_CH1/LCD_SEG1/ADC_IN2/COMP1_INP", 13 PA3 "PA3/USART2_RX/TIM2_CH4/TIM9_CH2/LCD_SEG2/ADC_IN3/COMP1_INP", 14 PA4 "PA4/SPI1_NSS/USART2_CK/ADC_IN4/DAC_OUT1/COMP1_INP", 15 PA5 "PA5/SPI1_SCK/TIM2_CH1_ETR/ADC_IN5/DAC_OUT2/COMP1_INP", 16 PA6 "PA6/SPI1_MISO/TIM3_CH1/LCD_SEG3/TIM10_CH1/ADC_IN6/COMP1_INP", 17 PA7 "PA7/SPI1_MOSI/TIM3_CH2/LCD_SEG4/TIM11_CH1/ADC_IN7/COMP1_INP", 18 PB0 "PB0/TIM3_CH3/LCD_SEG5/ADC_IN8/COMP1_INP/VREF_OUT/VLCDRAIL3", 19 PB1 "PB1/TIM3_CH4/LCD_SEG6/ADC_IN9/COMP1_INP/VREF_OUT", 20 PB2 "PB2/BOOT1/VLCDRAIL1", 21 PB10 "PB10/I2C2_SCL/USART3_TX/TIM2_CH3/LCD_SEG10", 22 PB11 "PB11/I2C2_SDA/USART3_RX/TIM2_CH4/LCD_SEG11", 25 PB12 "PB12/SPI2_NSS/I2C2_SMBA/USART3_CK/LCD_SEG12/TIM10_CH1/ADC_IN18/COMP1_INP/VLCDRAIL2", 26 PB13 "PB13/SPI2_SCK/USART3_CTS/LCD_SEG13/TIM9_CH1/ADC_IN19/COMP1_INP", 27 PB14 "PB14/SPI2_MISO/USART3_RTS/LCD_SEG14/TIM9_CH2/ADC_IN20/COMP1_INP", 28 PB15 "PB15/SPI2_MOSI/LCD_SEG15/TIM11_CH1/ADC_IN21/COMP1_INP/RTC_REFIN", 29 PA8 "PA8/USART1_CK/MCO/LCD_COM0", 30 PA9 "PA9/USART1_TX/LCD_COM1", 31 PA10 "PA10/USART1_RX/LCD_COM2", 32 PA11 "PA11/USART1_CTS/SPI1_MISO/USB_DM", 33 PA12 "PA12/USART1_RTS/SPI1_MOSI/USB_DP", 34 PA13 "PA13/JTMS-SWDIO", 37 PA14 "PA14/JTCK-SWCLK", 38 PA15 "PA15/JTDI/TIM2_CH1_ETR/SPI1_NSS/LCD_SEG17", 39 PB3 "PB3/TIM2_CH2/SPI1_SCK/LCD_SEG7/JTDO/COMP2_INM", 40 PB4 "PB4/TIM3_CH1/SPI1_MISO/LCD_SEG8/NJTRST/COMP2_INP", 41 PB5 "PB5/I2C1_SMBA/TIM3_CH2/SPI1_MOSI/LCD_SEG9/COMP2_INP", 42 PB6 "PB6/I2C1_SCL/TIM4_CH1/USART1_TX", 43 PB7 "PB7/I2C1_SDA/TIM4_CH2/USART1_RX/PVD_IN", 44 BOOT0, 45 PB8 "PB8/TIM4_CH3/I2C1_SCL/LCD_SEG16/TIM10_CH1", 46 PB9 "PB9/TIM4_CH4/I2C1_SDA/LCD_COM3/TIM11_CH1"
part B pins: 1 VLCD (power), 8 VSSA (power), 9 VDDA (power), 23 VSS_1 (power), 24 VDD_1 (power), 35 VSS_2 (power), 36 VDD_2 (power), 47 VSS_3 (power), 48 VDD_3 (power)

## STM-LIS2HH12-LGA-12
designator DD?
pins: 1 SCL/SPC, 2 CS "SPI enable I2C/SPI mode selection (1: SPI idle mode / I2C communication enabled; 0: SPI communication mode / I2C disabled)", 3 SDO/SA0, 4 SDA/SDI/SDO, 5 RES "Connect to GND", 6 GND (power) "0 V supply", 7 GND (power) "0 V supply", 8 GND (power) "0 V supply", 9 VDD (power) "Power supply", 10 VDD_IO (power) "Power supply for I/O pins", 11 INT2 "Interrupt pin 2", 12 INT1 "Interrupt pin 1"

## STMPS2171
designator DD?
MPN: *
pins: 1 OUT, 2 GND (power), 3 FAULT, 4 EN, 5 IN (power)

## SUPERBUTTON
designator SB?  (value not drawn)
MntType: SMD; MSL: MSL 1; RoHS: Comply; BOMDescription: SMD
footprint SUPERBUTTON
pins: 1, 2

## SWD
designator U?
MPN: PLS8; MntType: SMD; BOMDescription: SMD CONNECTOR      PLS8; MSL: MSL 1; RoHS: Comply; PartType: CONNECTOR; Pins: 8
footprint PLS8
pins: 1, 2, 3, 4, 5, 6, 7, 8
text: TX; RX; Vdd; SWCLK; GND; SWDIO; NRST; BOOT

## SWT-LINE
designator SB?  (value not drawn)
MPN: SWT-4; MntType: SMD; BOMDescription: SMD BUTTON SWT-4     SWT-4; MSL: MSL 1; Package: SWT-4; RoHS: Comply; PartType: BUTTON
footprint SWT-4
pins: 1, 2, 3 hidden, 4 hidden

## SX730A
designator D?
MntType: SMD; BOMDescription: SMD  SOT-23     SX730A; MSL: MSL 1; Package: SOT-23; RoHS: Comply; Pins: 3; MPN: SX730A
footprint SOT-23
pins: 1 IN, 2 GND, 3 OUT

## SY100EP196VTG
designator DD?
MPN: SY100EP196VTG
part A pins: 1 D8 (in), 2 D9 (in), 3 D10 (io), 4 IN (in), 5 ~{IN} (in), 10 LEN (in), 11 SETMIN (in), 12 SETMAX (in), 14 ~{CASCADE} (out), 15 CASCADE (out), 16 ~{EN} (in), 20 ~{Q} (out), 21 Q (out), 23 D0 (in), 25 D1 (in), 26 D2 (in), 27 D3 (in), 29 D4 (in), 30 D5 (in), 31 D6 (in), 32 D7 (in)
part B pins: 6 VBB (power), 7 VEF (out), 8 VCF (power), 9 VEE (power), 13 VCC (power), 17 FTUNE (in), 18 VCC (power), 19 VCC (power), 22 VCC (power), 24 VEE (power), 28 VEE (power)

## T_671143.011_01
designator T2, comment T_671143.011-01  (value not drawn)
MPN: *
pins: 2, 5, 6, 7, 8, 11

## TCXO_10pin
designator Q?, comment 7N-38.880MBP-T
38.88 MHz TCXO CMOS Oscillator 3.3V Enable/Disable 10-SMD, No Lead
pins: 1 NC, 2 NC, 3 NC, 4 GND, 5 Output, 6 NC, 7 NC, 8 Tri-state, 9 VCC, 10 GND

## TDK-B39871B3725U410-6
designator DD?
pins: 1, 2 IN, 3, 4, 5 OUT, 6
text: GND

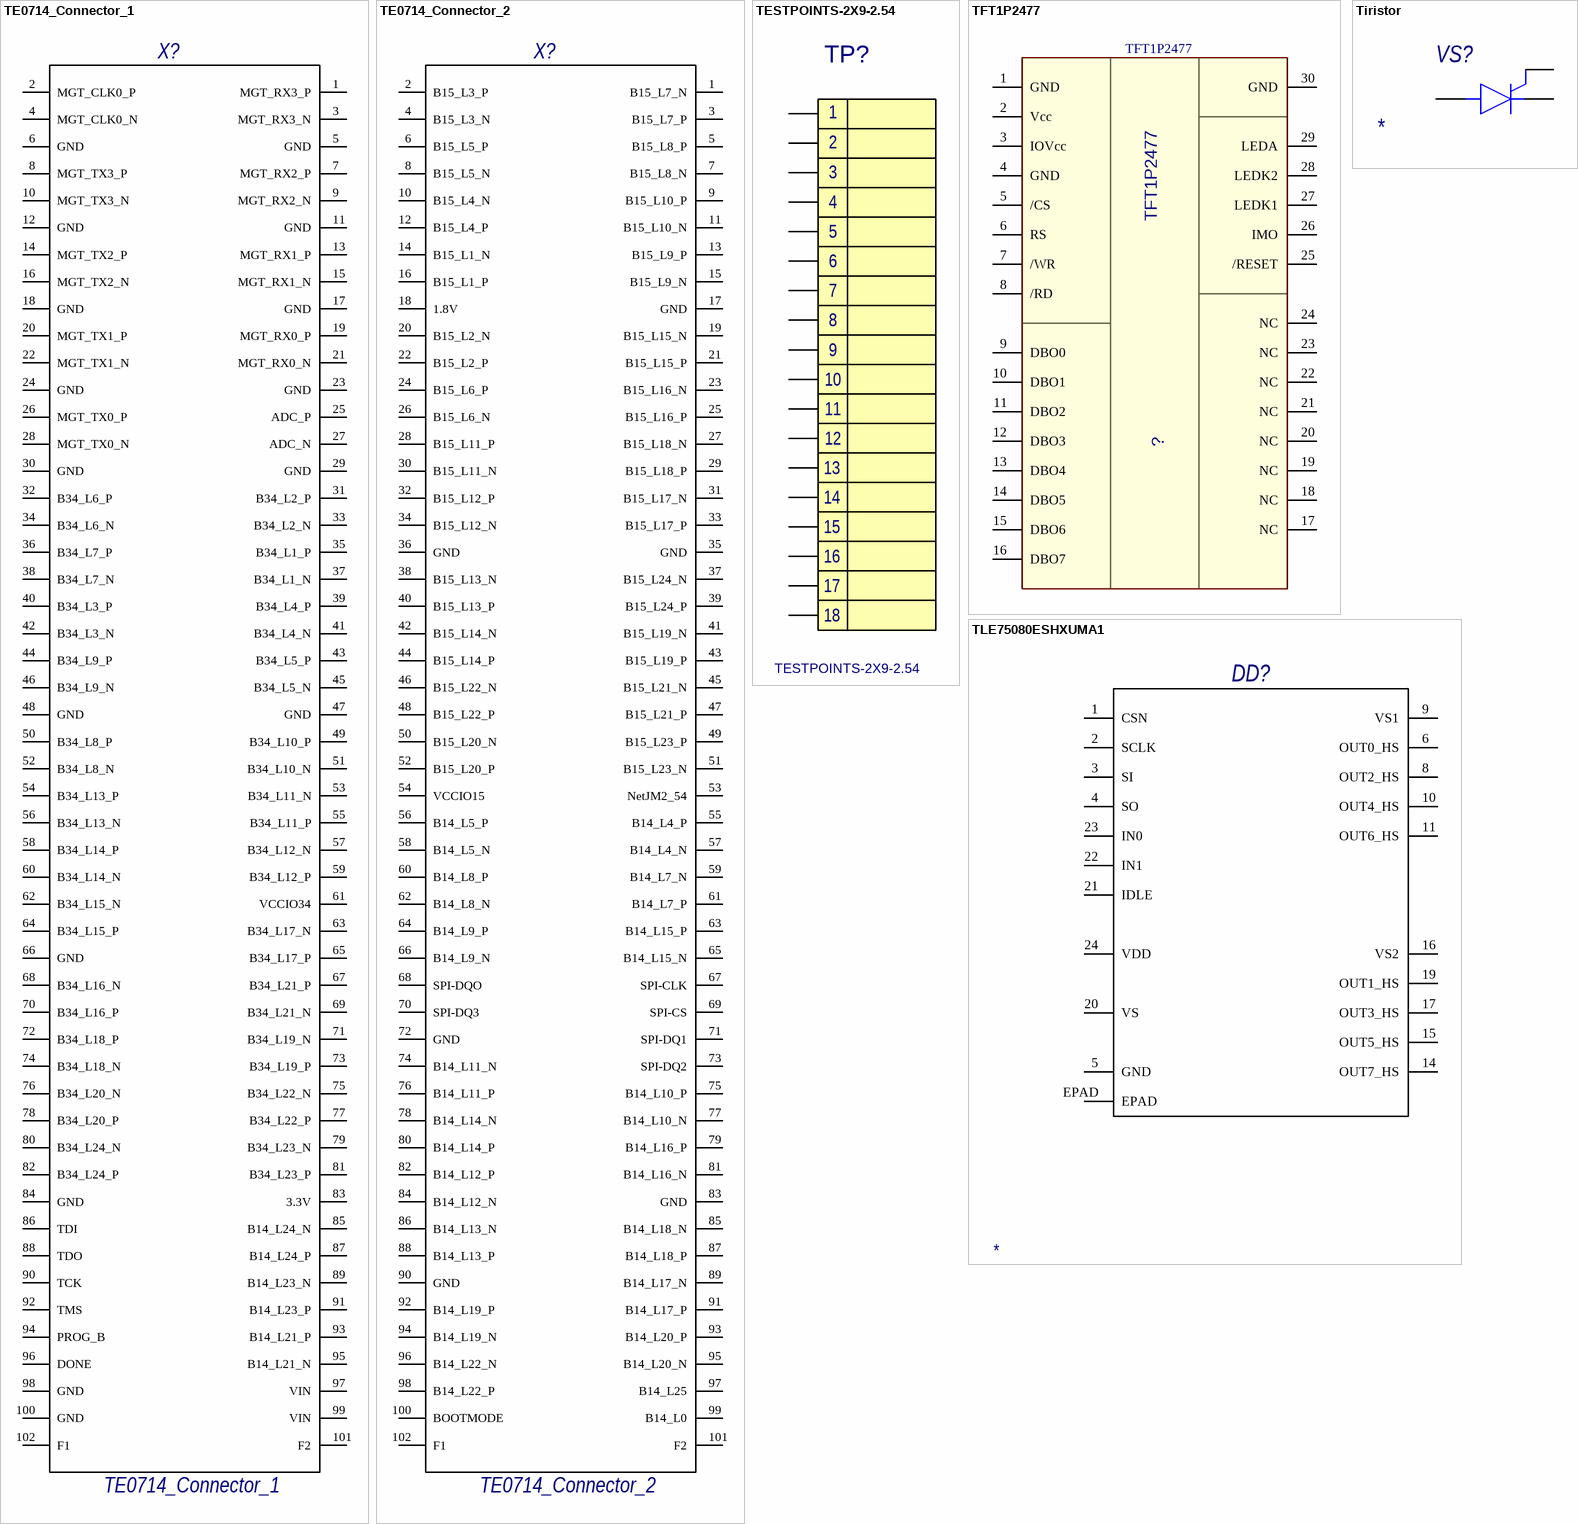
[diagram p29: symbols TE0714_Connector_1 to TLE75080ESHXUMA1]

## TE0714_Connector_1
designator X?
pins: 1 MGT_RX3_P, 2 MGT_CLK0_P, 3 MGT_RX3_N, 4 MGT_CLK0_N, 5 GND, 6 GND, 7 MGT_RX2_P, 8 MGT_TX3_P, 9 MGT_RX2_N, 10 MGT_TX3_N, 11 GND, 12 GND, 13 MGT_RX1_P, 14 MGT_TX2_P, 15 MGT_RX1_N, 16 MGT_TX2_N, 17 GND, 18 GND, 19 MGT_RX0_P, 20 MGT_TX1_P, 21 MGT_RX0_N, 22 MGT_TX1_N, 23 GND, 24 GND, 25 ADC_P, 26 MGT_TX0_P, 27 ADC_N, 28 MGT_TX0_N, 29 GND, 30 GND, 31 B34_L2_P, 32 B34_L6_P, 33 B34_L2_N, 34 B34_L6_N, 35 B34_L1_P, 36 B34_L7_P, 37 B34_L1_N, 38 B34_L7_N, 39 B34_L4_P, 40 B34_L3_P, 41 B34_L4_N, 42 B34_L3_N, 43 B34_L5_P, 44 B34_L9_P, 45 B34_L5_N, 46 B34_L9_N, 47 GND, 48 GND, 49 B34_L10_P, 50 B34_L8_P, 51 B34_L10_N, 52 B34_L8_N, 53 B34_L11_N, 54 B34_L13_P, 55 B34_L11_P, 56 B34_L13_N, 57 B34_L12_N, 58 B34_L14_P, 59 B34_L12_P, 60 B34_L14_N, 61 VCCIO34, 62 B34_L15_N, 63 B34_L17_N, 64 B34_L15_P, 65 B34_L17_P, 66 GND, 67 B34_L21_P, 68 B34_L16_N, 69 B34_L21_N, 70 B34_L16_P, 71 B34_L19_N, 72 B34_L18_P, 73 B34_L19_P, 74 B34_L18_N, 75 B34_L22_N, 76 B34_L20_N, 77 B34_L22_P, 78 B34_L20_P, 79 B34_L23_N, 80 B34_L24_N, 81 B34_L23_P, 82 B34_L24_P, 83 3.3V, 84 GND, 85 B14_L24_N, 86 TDI, 87 B14_L24_P, 88 TDO, 89 B14_L23_N, 90 TCK, 91 B14_L23_P, 92 TMS, 93 B14_L21_P, 94 PROG_B, 95 B14_L21_N, 96 DONE, 97 VIN, 98 GND, 99 VIN, 100 GND, 101 F2, 102 F1